# Altium schematic symbol library FPGA_Xilinx.SchLib: 34 symbols (part 1 of 2)
Pins are listed as number, name and electrical type; pins without a type are passive.

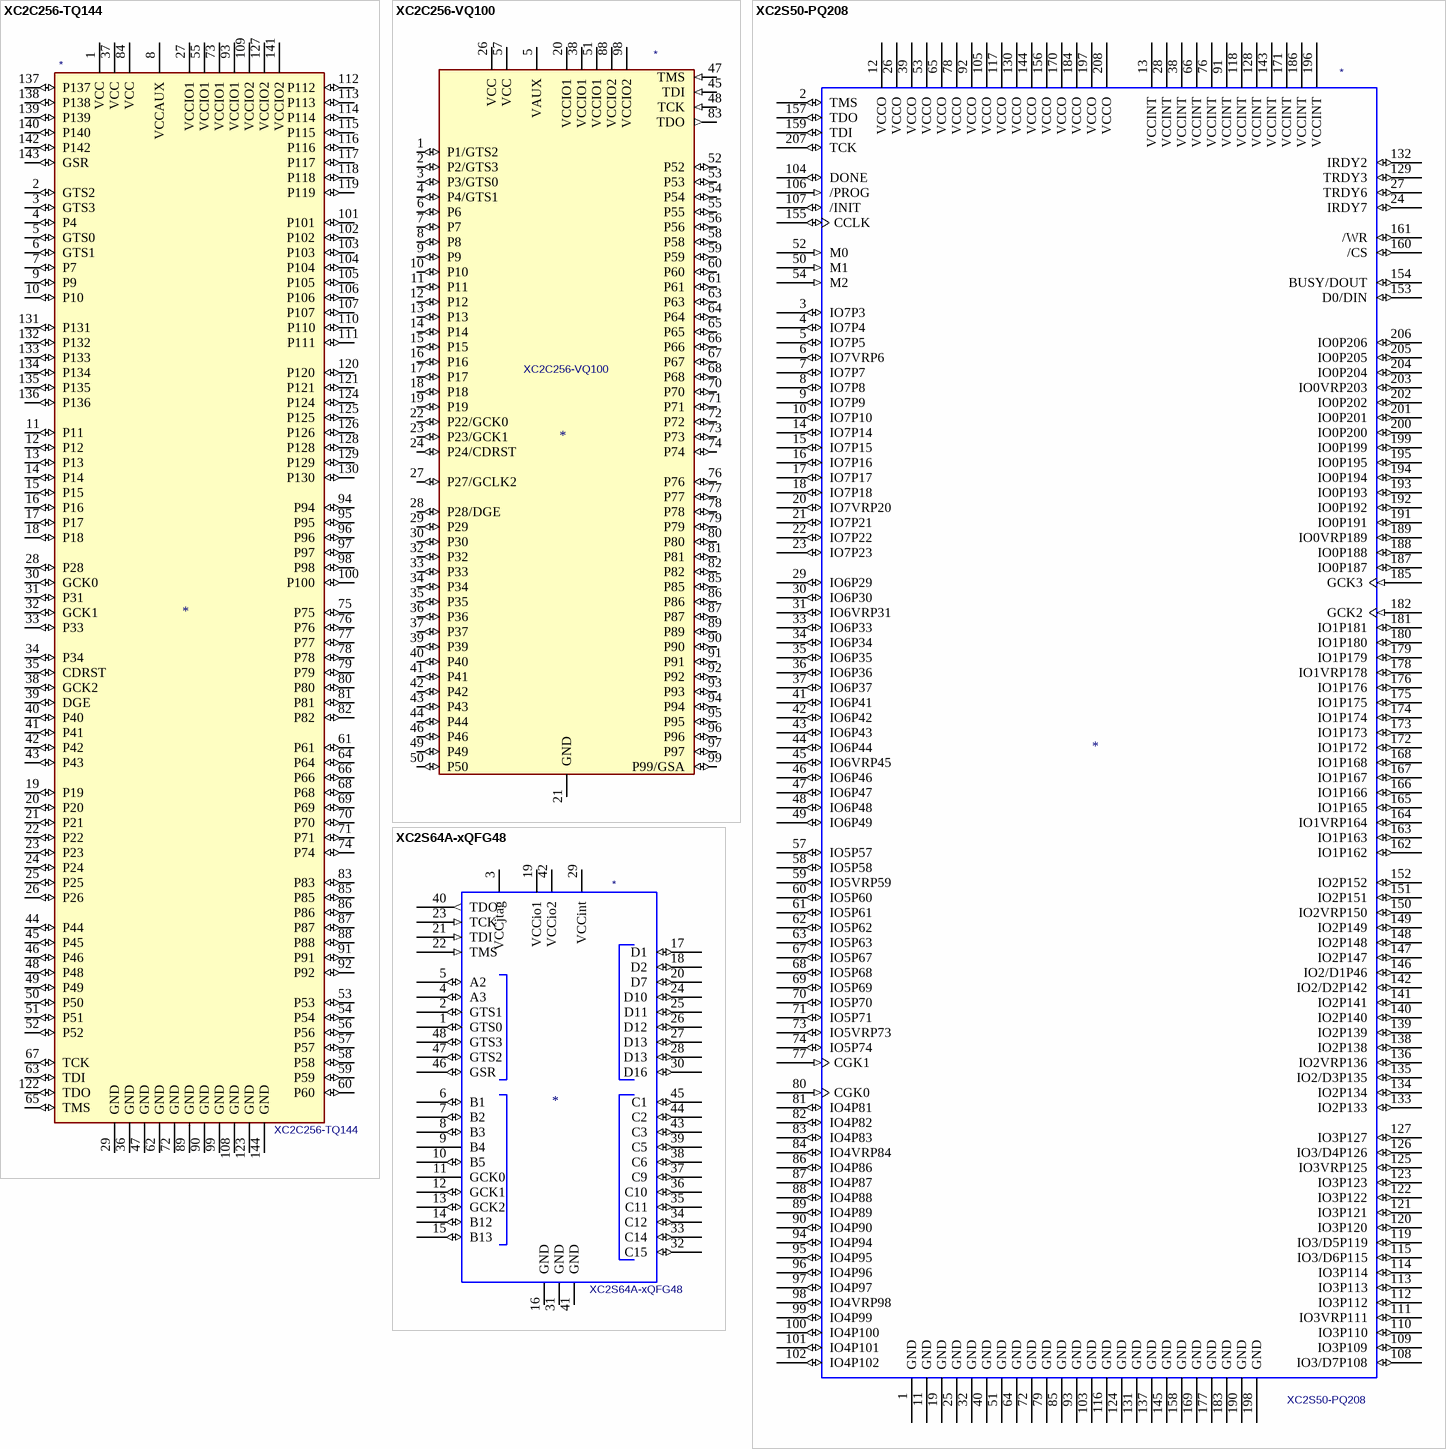
[diagram p0: symbols XC2C256-TQ144 to XC2S64A-xQFG48]

## XC2C256-TQ144
designator *  value XC2C256-TQ144
ki_keywords: CPLD; ki_description: CoolRunner-II CPLD, 256 macrocells; ki_fp_filters: TQFP*20x20mm*P0.5mm*; Footprint: Package_QFP:TQFP-144_20x20mm_P0.5mm; Supplier: https://www.xilinx.com/support/documentation/data_sheets/ds094.pdf
footprint TQFP-144_20x20mm_P0.5mm
pins: 1 VCC (power), 2 GTS2 (io), 3 GTS3 (io), 4 P4 (io), 5 GTS0 (io), 6 GTS1 (io), 7 P7 (io), 8 VCCAUX (power), 9 P9 (io), 10 P10 (io), 11 P11 (io), 12 P12 (io), 13 P13 (io), 14 P14 (io), 15 P15 (io), 16 P16 (io), 17 P17 (io), 18 P18 (io), 19 P19 (io), 20 P20 (io), 21 P21 (io), 22 P22 (io), 23 P23 (io), 24 P24 (io), 25 P25 (io), 26 P26 (io), 27 VCCIO1 (power), 28 P28 (io), 29 GND (power), 30 GCK0 (io), 31 P31 (io), 32 GCK1 (io), 33 P33 (io), 34 P34 (io), 35 CDRST (io), 36 GND (power), 37 VCC (power), 38 GCK2 (io), 39 DGE (io), 40 P40 (io), 41 P41 (io), 42 P42 (io), 43 P43 (io), 44 P44 (io), 45 P45 (io), 46 P46 (io), 47 GND (power), 48 P48 (io), 49 P49 (io), 50 P50 (io), 51 P51 (io), 52 P52 (io), 53 P53 (io), 54 P54 (io), 55 VCCIO1 (power), 56 P56 (io), 57 P57 (io), 58 P58 (io), 59 P59 (io), 60 P60 (io), 61 P61 (io), 62 GND (power), 63 TDI (io), 64 P64 (io), 65 TMS (io), 66 P66 (io), 67 TCK (io), 68 P68 (io), 69 P69 (io), 70 P70 (io), 71 P71 (io), 72 GND (power), 73 VCCIO1 (power), 74 P74 (io), 75 P75 (io), 76 P76 (io), 77 P77 (io), 78 P78 (io), 79 P79 (io), 80 P80 (io), 81 P81 (io), 82 P82 (io), 83 P83 (io), 84 VCC (power), 85 P85 (io), 86 P86 (io), 87 P87 (io), 88 P88 (io), 89 GND (power), 90 GND (power), 91 P91 (io), 92 P92 (io), 93 VCCIO1 (power), 94 P94 (io), 95 P95 (io), 96 P96 (io), 97 P97 (io), 98 P98 (io), 99 GND (power), 100 P100 (io), 101 P101 (io), 102 P102 (io), 103 P103 (io), 104 P104 (io), 105 P105 (io), 106 P106 (io), 107 P107 (io), 108 GND (power), 109 VCCIO2 (power), 110 P110 (io), 111 P111 (io), 112 P112 (io), 113 P113 (io), 114 P114 (io), 115 P115 (io), 116 P116 (io), 117 P117 (io), 118 P118 (io), 119 P119 (io), 120 P120 (io), 121 P121 (io), 122 TDO (io), 123 GND (power), 124 P124 (io), 125 P125 (io), 126 P126 (io), 127 VCCIO2 (power), 128 P128 (io), 129 P129 (io), 130 P130 (io), 131 P131 (io), 132 P132 (io), 133 P133 (io), 134 P134 (io), 135 P135 (io), 136 P136 (io), 137 P137 (io), 138 P138 (io), 139 P139 (io), 140 P140 (io), 141 VCCIO2 (power), 142 P142 (io), 143 GSR (io), 144 GND (power)

## XC2C256-VQ100
designator *  value XC2C256-VQ100
ki_keywords: CPLD; ki_description: CoolRunner-II CPLD, 256 macrocells, VQFP-100; ki_fp_filters: VQFP*14x14mm*P0.5mm*; Footprint: Package_QFP:VQFP-100_14x14mm_P0.5mm; Supplier: https://www.xilinx.com/support/documentation/data_sheets/ds094.pdf
footprint VQFP-100_14x14mm_P0.5mm
pins: 1 P1/GTS2 (io), 2 P2/GTS3 (io), 3 P3/GTS0 (io), 4 P4/GTS1 (io), 5 VAUX (power), 6 P6 (io), 7 P7 (io), 8 P8 (io), 9 P9 (io), 10 P10 (io), 11 P11 (io), 12 P12 (io), 13 P13 (io), 14 P14 (io), 15 P15 (io), 16 P16 (io), 17 P17 (io), 18 P18 (io), 19 P19 (io), 20 VCCIO1 (power), 21 GND (power), 22 P22/GCK0 (io), 23 P23/GCK1 (io), 24 P24/CDRST (io), 25 GND hidden, 26 VCC (power), 27 P27/GCLK2 (io), 28 P28/DGE (io), 29 P29 (io), 30 P30 (io), 31 GND hidden, 32 P32 (io), 33 P33 (io), 34 P34 (io), 35 P35 (io), 36 P36 (io), 37 P37 (io), 38 VCCIO1 (power), 39 P39 (io), 40 P40 (io), 41 P41 (io), 42 P42 (io), 43 P43 (io), 44 P44 (io), 45 TDI (in), 46 P46 (io), 47 TMS (in), 48 TCK (in), 49 P49 (io), 50 P50 (io), 51 VCCIO1 (power), 52 P52 (io), 53 P53 (io), 54 P54 (io), 55 P55 (io), 56 P56 (io), 57 VCC (power), 58 P58 (io), 59 P59 (io), 60 P60 (io), 61 P61 (io), 62 GND hidden, 63 P63 (io), 64 P64 (io), 65 P65 (io), 66 P66 (io), 67 P67 (io), 68 P68 (io), 69 GND hidden, 70 P70 (io), 71 P71 (io), 72 P72 (io), 73 P73 (io), 74 P74 (io), 75 GND hidden, 76 P76 (io), 77 P77 (io), 78 P78 (io), 79 P79 (io), 80 P80 (io), 81 P81 (io), 82 P82 (io), 83 TDO (out), 84 GND hidden, 85 P85 (io), 86 P86 (io), 87 P87 (io), 88 VCCIO2 (power), 89 P89 (io), 90 P90 (io), 91 P91 (io), 92 P92 (io), 93 P93 (io), 94 P94 (io), 95 P95 (io), 96 P96 (io), 97 P97 (io), 98 VCCIO2 (power), 99 P99/GSA (io), 100 GND hidden

## XC2S50-PQ208
designator *  value XC2S50-PQ208
pins: 1 GND, 2 TMS (io), 3 IO7P3 (io), 4 IO7P4 (io), 5 IO7P5 (io), 6 IO7VRP6 (io), 7 IO7P7 (io), 8 IO7P8 (io), 9 IO7P9 (io), 10 IO7P10 (io), 11 GND, 12 VCCO, 13 VCCINT, 14 IO7P14 (io), 15 IO7P15 (io), 16 IO7P16 (io), 17 IO7P17 (io), 18 IO7P18 (io), 19 GND, 20 IO7VRP20 (io), 21 IO7P21 (io), 22 IO7P22 (io), 23 IO7P23 (io), 24 IRDY7 (io), 25 GND, 26 VCCO, 27 TRDY6 (io), 28 VCCINT, 29 IO6P29 (io), 30 IO6P30 (io), 31 IO6VRP31 (io), 32 GND, 33 IO6P33 (io), 34 IO6P34 (io), 35 IO6P35 (io), 36 IO6P36 (io), 37 IO6P37 (io), 38 VCCINT, 39 VCCO, 40 GND, 41 IO6P41 (io), 42 IO6P42 (io), 43 IO6P43 (io), 44 IO6P44 (io), 45 IO6VRP45 (io), 46 IO6P46 (io), 47 IO6P47 (io), 48 IO6P48 (io), 49 IO6P49 (io), 50 M1 (in), 51 GND, 52 M0 (in), 53 VCCO, 54 M2 (in), 57 IO5P57 (io), 58 IO5P58 (io), 59 IO5VRP59 (io), 60 IO5P60 (io), 61 IO5P61 (io), 62 IO5P62 (io), 63 IO5P63 (io), 64 GND, 65 VCCO, 66 VCCINT, 67 IO5P67 (io), 68 IO5P68 (io), 69 IO5P69 (io), 70 IO5P70 (io), 71 IO5P71 (io), 72 GND, 73 IO5VRP73 (io), 74 IO5P74 (io), 76 VCCINT, 77 CGK1 (in), 78 VCCO, 79 GND, 80 CGK0 (in), 81 IO4P81 (io), 82 IO4P82 (io), 83 IO4P83 (io), 84 IO4VRP84 (io), 85 GND, 86 IO4P86 (io), 87 IO4P87 (io), 88 IO4P88 (io), 89 IO4P89 (io), 90 IO4P90 (io), 91 VCCINT, 92 VCCO, 93 GND, 94 IO4P94 (io), 95 IO4P95 (io), 96 IO4P96 (io), 97 IO4P97 (io), 98 IO4VRP98 (io), 99 IO4P99 (io), 100 IO4P100 (io), 101 IO4P101 (io), 102 IO4P102 (io), 103 GND, 104 DONE (io), 105 VCCO, 106 /PROG (in), 107 /INIT (io), 108 IO3/D7P108 (io), 109 IO3P109 (io), 110 IO3P110 (io), 111 IO3VRP111 (io), 112 IO3P112 (io), 113 IO3P113 (io), 114 IO3P114 (io), 115 IO3/D6P115 (io), 116 GND, 117 VCCO, 118 VCCINT, 119 IO3/D5P119 (io), 120 IO3P120 (io), 121 IO3P121 (io), 122 IO3P122 (io), 123 IO3P123 (io), 124 GND, 125 IO3VRP125 (io), 126 IO3/D4P126 (io), 127 IO3P127 (io), 128 VCCINT, 129 TRDY3 (io), 130 VCCO, 131 GND, 132 IRDY2 (io), 133 IO2P133 (io), 134 IO2P134 (io), 135 IO2/D3P135 (io), 136 IO2VRP136 (io), 137 GND, 138 IO2P138 (io), 139 IO2P139 (io), 140 IO2P140 (io), 141 IO2P141 (io), 142 IO2/D2P142 (io), 143 VCCINT, 144 VCCO, 145 GND, 146 IO2/D1P46 (io), 147 IO2P147 (io), 148 IO2P148 (io), 149 IO2P149 (io), 150 IO2VRP150 (io), 151 IO2P151 (io), 152 IO2P152 (io), 153 D0/DIN (io), 154 BUSY/DOUT (io), 155 CCLK (io), 156 VCCO, 157 TDO (io), 158 GND, 159 TDI (io), 160 /CS (io), 161 /WR (io), 162 IO1P162 (io), 163 IO1P163 (io), 164 IO1VRP164 (io), 165 IO1P165 (io), 166 IO1P166 (io), 167 IO1P167 (io), 168 IO1P168 (io), 169 GND, 170 VCCO, 171 VCCINT, 172 IO1P172 (io), 173 IO1P173 (io), 174 IO1P174 (io), 175 IO1P175 (io), 176 IO1P176 (io), 177 GND, 178 IO1VRP178 (io), 179 IO1P179 (io), 180 IO1P180 (io), 181 IO1P181 (io), 182 GCK2 (in), 183 GND, 184 VCCO, 185 GCK3 (in), 186 VCCINT, 187 IO0P187 (io), 188 IO0P188 (io), 189 IO0VRP189 (io), 190 GND, 191 IO0P191 (io), 192 IO0P192 (io), 193 IO0P193 (io), 194 IO0P194 (io), 195 IO0P195 (io), 196 VCCINT, 197 VCCO, 198 GND, 199 IO0P199 (io), 200 IO0P200 (io), 201 IO0P201 (io), 202 IO0P202 (io), 203 IO0VRP203 (io), 204 IO0P204 (io), 205 IO0P205 (io), 206 IO0P206 (io), 207 TCK (io), 208 VCCO

## XC2S64A-xQFG48
designator *  value XC2S64A-xQFG48
ki_description: Xilinx CoolRunner; Supplier: xilinx/xc2c64.pdf
pins: 1 GTS0 (io), 2 GTS1 (io), 3 VCCjtag (power), 4 A3 (io), 5 A2 (io), 6 B1 (io), 7 B2 (io), 8 B3 (io), 9 B4, 10 B5 (io), 11 GCK0, 12 GCK1 (io), 13 GCK2 (io), 14 B12 (io), 15 B13 (io), 16 GND (power), 17 D1 (io), 18 D2 (io), 19 VCCio1 (power), 20 D7 (io), 21 TDI (in), 22 TMS (in), 23 TCK (in), 24 D10 (io), 25 D11 (io), 26 D12 (io), 27 D13 (io), 28 D13 (io), 29 VCCint (power), 30 D16 (io), 31 GND (power), 32 C15 (io), 33 C14 (io), 34 C12 (io), 35 C11 (io), 36 C10 (io), 37 C9 (io), 38 C6 (io), 39 C5 (io), 40 TDO (out), 41 GND (power), 42 VCCio2 (power), 43 C3 (io), 44 C2 (io), 45 C1 (io), 46 GSR (io), 47 GTS2 (io), 48 GTS3 (io)

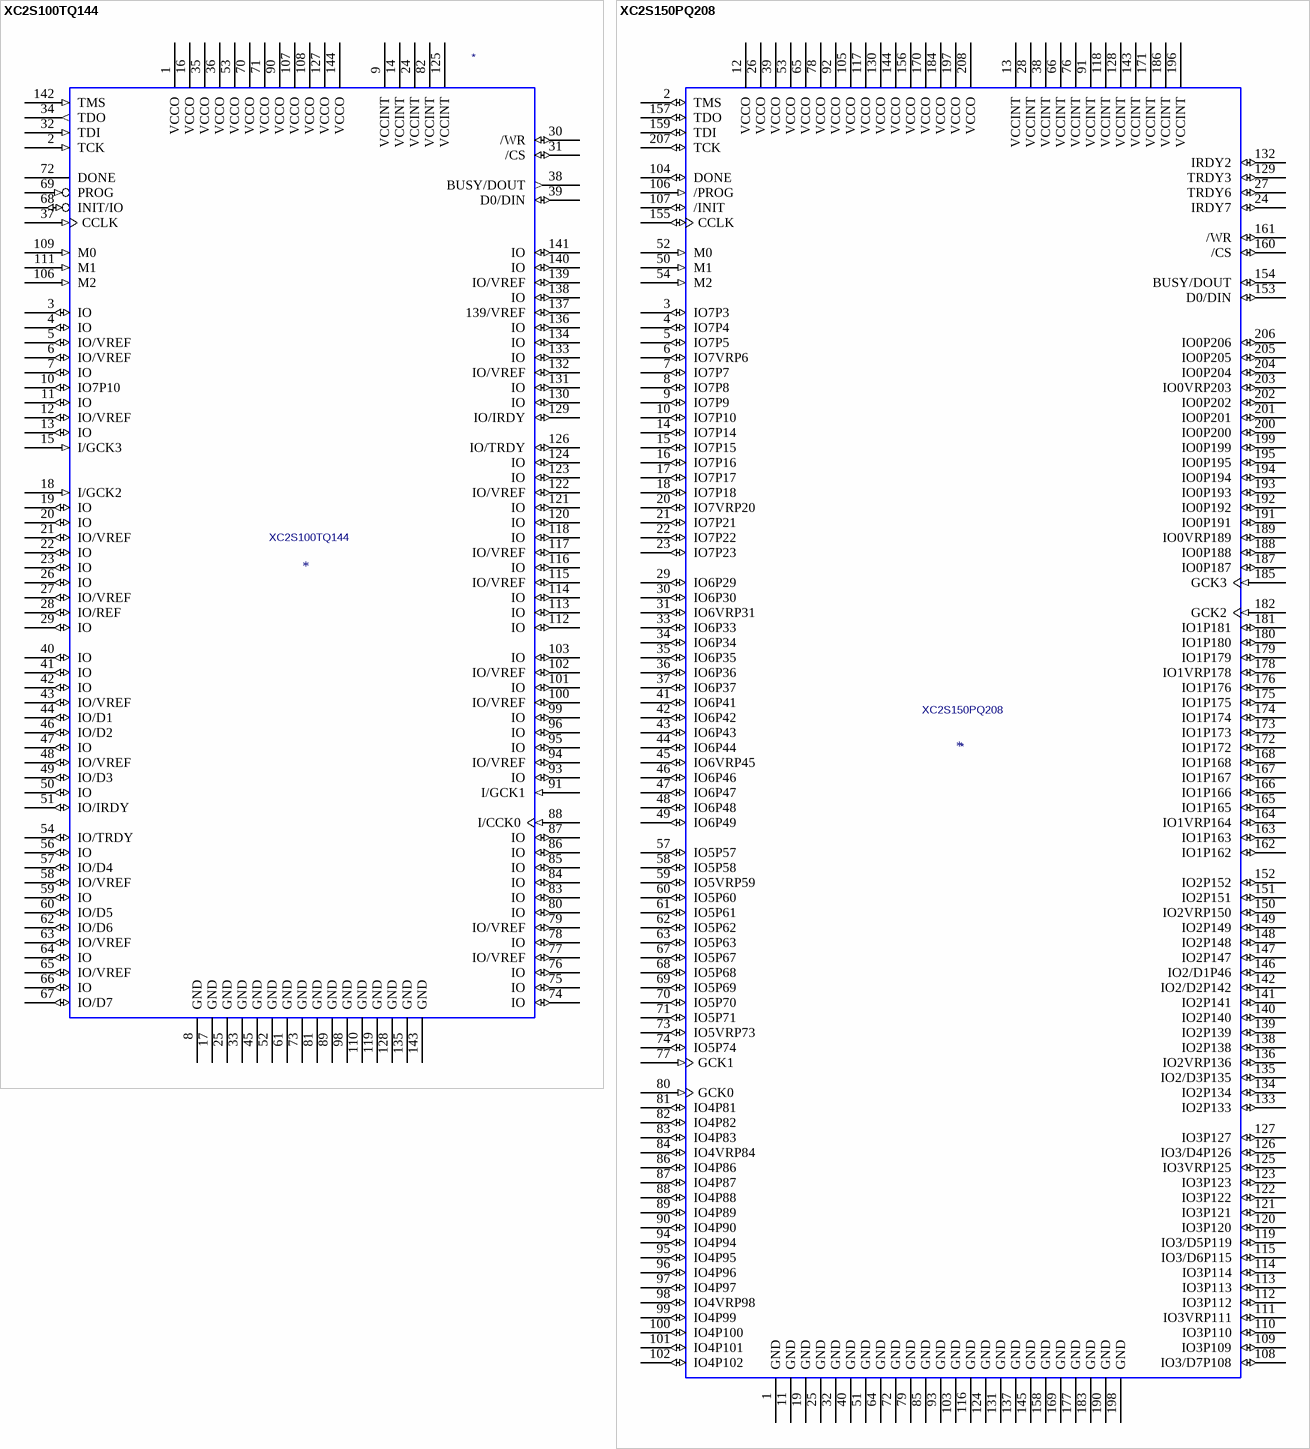
[diagram p1: symbols XC2S100TQ144 to XC2S150PQ208]

## XC2S100TQ144
designator *  value XC2S100TQ144
ki_keywords: FPGA; ki_description: spartan 2; Supplier: xilinx/spartan2e/spartan2e.pdf
pins: 1 VCCO (power), 2 TCK (in), 3 IO (io), 4 IO (io), 5 IO/VREF (io), 6 IO/VREF (io), 7 IO (io), 8 GND (power), 9 VCCINT (power), 10 IO7P10 (io), 11 IO (io), 12 IO/VREF (io), 13 IO (io), 14 VCCINT (power), 15 I/GCK3 (in), 16 VCCO (power), 17 GND (power), 18 I/GCK2 (in), 19 IO (io), 20 IO (io), 21 IO/VREF (io), 22 IO (io), 23 IO (io), 24 VCCINT (power), 25 GND (power), 26 IO (io), 27 IO/VREF (io), 28 IO/REF (io), 29 IO (io), 30 /WR (io), 31 /CS (io), 32 TDI (in), 33 GND (power), 34 TDO (out), 35 VCCO (power), 36 VCCO (power), 37 CCLK (in), 38 BUSY/DOUT (out), 39 D0/DIN (io), 40 IO (io), 41 IO (io), 42 IO (io), 43 IO/VREF (io), 44 IO/D1 (io), 45 GND (power), 46 IO/D2 (io), 47 IO (io), 48 IO/VREF (io), 49 IO/D3 (io), 50 IO (io), 51 IO/IRDY (io), 52 GND (power), 53 VCCO (power), 54 IO/TRDY (io), 56 IO (io), 57 IO/D4 (io), 58 IO/VREF (io), 59 IO (io), 60 IO/D5 (io), 61 GND (power), 62 IO/D6 (io), 63 IO/VREF (io), 64 IO (io), 65 IO/VREF (io), 66 IO (io), 67 IO/D7 (io), 68 INIT/IO (io), 69 PROG (in), 70 VCCO (power), 71 VCCO (power), 72 DONE (oc), 73 GND (power), 74 IO (io), 75 IO (io), 76 IO (io), 77 IO/VREF (io), 78 IO (io), 79 IO/VREF (io), 80 IO (io), 81 GND (power), 82 VCCINT (power), 83 IO (io), 84 IO (io), 85 IO (io), 86 IO (io), 87 IO (io), 88 I/CCK0 (in), 89 GND (power), 90 VCCO (power), 91 I/GCK1 (in), 93 IO (io), 94 IO/VREF (io), 95 IO (io), 96 IO (io), 98 GND, 99 IO (io), 100 IO/VREF (io), 101 IO (io), 102 IO/VREF (io), 103 IO (io), 106 M2 (in), 107 VCCO (power), 108 VCCO (power), 109 M0 (in), 110 GND (power), 111 M1 (in), 112 IO (io), 113 IO (io), 114 IO (io), 115 IO/VREF (io), 116 IO (io), 117 IO/VREF (io), 118 IO (io), 119 GND (power), 120 IO (io), 121 IO (io), 122 IO/VREF (io), 123 IO (io), 124 IO (io), 125 VCCINT (power), 126 IO/TRDY (io), 127 VCCO (power), 128 GND (power), 129 IO/IRDY (io), 130 IO (io), 131 IO (io), 132 IO/VREF (io), 133 IO (io), 134 IO (io), 135 GND (power), 136 IO (io), 137 139/VREF (io), 138 IO (io), 139 IO/VREF (io), 140 IO (io), 141 IO (io), 142 TMS (in), 143 GND (power), 144 VCCO

## XC2S150PQ208
designator *  value XC2S150PQ208
ki_keywords: FPGA; Supplier: xilinx/spartan2e/spartan2e.pdf
pins: 1 GND (power), 2 TMS (io), 3 IO7P3 (io), 4 IO7P4 (io), 5 IO7P5 (io), 6 IO7VRP6 (io), 7 IO7P7 (io), 8 IO7P8 (io), 9 IO7P9 (io), 10 IO7P10 (io), 11 GND (power), 12 VCCO (power), 13 VCCINT (power), 14 IO7P14 (io), 15 IO7P15 (io), 16 IO7P16 (io), 17 IO7P17 (io), 18 IO7P18 (io), 19 GND (power), 20 IO7VRP20 (io), 21 IO7P21 (io), 22 IO7P22 (io), 23 IO7P23 (io), 24 IRDY7 (io), 25 GND (power), 26 VCCO (power), 27 TRDY6 (io), 28 VCCINT (power), 29 IO6P29 (io), 30 IO6P30 (io), 31 IO6VRP31 (io), 32 GND (power), 33 IO6P33 (io), 34 IO6P34 (io), 35 IO6P35 (io), 36 IO6P36 (io), 37 IO6P37 (io), 38 VCCINT (power), 39 VCCO (power), 40 GND (power), 41 IO6P41 (io), 42 IO6P42 (io), 43 IO6P43 (io), 44 IO6P44 (io), 45 IO6VRP45 (io), 46 IO6P46 (io), 47 IO6P47 (io), 48 IO6P48 (io), 49 IO6P49 (io), 50 M1 (in), 51 GND (power), 52 M0 (in), 53 VCCO (power), 54 M2 (in), 57 IO5P57 (io), 58 IO5P58 (io), 59 IO5VRP59 (io), 60 IO5P60 (io), 61 IO5P61 (io), 62 IO5P62 (io), 63 IO5P63 (io), 64 GND (power), 65 VCCO (power), 66 VCCINT (power), 67 IO5P67 (io), 68 IO5P68 (io), 69 IO5P69 (io), 70 IO5P70 (io), 71 IO5P71 (io), 72 GND (power), 73 IO5VRP73 (io), 74 IO5P74 (io), 76 VCCINT (power), 77 GCK1 (in), 78 VCCO (power), 79 GND (power), 80 GCK0 (in), 81 IO4P81 (io), 82 IO4P82 (io), 83 IO4P83 (io), 84 IO4VRP84 (io), 85 GND (power), 86 IO4P86 (io), 87 IO4P87 (io), 88 IO4P88 (io), 89 IO4P89 (io), 90 IO4P90 (io), 91 VCCINT (power), 92 VCCO (power), 93 GND (power), 94 IO4P94 (io), 95 IO4P95 (io), 96 IO4P96 (io), 97 IO4P97 (io), 98 IO4VRP98 (io), 99 IO4P99 (io), 100 IO4P100 (io), 101 IO4P101 (io), 102 IO4P102 (io), 103 GND (power), 104 DONE (io), 105 VCCO (power), 106 /PROG (in), 107 /INIT (io), 108 IO3/D7P108 (io), 109 IO3P109 (io), 110 IO3P110 (io), 111 IO3VRP111 (io), 112 IO3P112 (io), 113 IO3P113 (io), 114 IO3P114 (io), 115 IO3/D6P115 (io), 116 GND (power), 117 VCCO (power), 118 VCCINT (power), 119 IO3/D5P119 (io), 120 IO3P120 (io), 121 IO3P121 (io), 122 IO3P122 (io), 123 IO3P123 (io), 124 GND (power), 125 IO3VRP125 (io), 126 IO3/D4P126 (io), 127 IO3P127 (io), 128 VCCINT (power), 129 TRDY3 (io), 130 VCCO (power), 131 GND (power), 132 IRDY2 (io), 133 IO2P133 (io), 134 IO2P134 (io), 135 IO2/D3P135 (io), 136 IO2VRP136 (io), 137 GND (power), 138 IO2P138 (io), 139 IO2P139 (io), 140 IO2P140 (io), 141 IO2P141 (io), 142 IO2/D2P142 (io), 143 VCCINT (power), 144 VCCO (power), 145 GND (power), 146 IO2/D1P46 (io), 147 IO2P147 (io), 148 IO2P148 (io), 149 IO2P149 (io), 150 IO2VRP150 (io), 151 IO2P151 (io), 152 IO2P152 (io), 153 D0/DIN (io), 154 BUSY/DOUT (io), 155 CCLK (io), 156 VCCO (power), 157 TDO (io), 158 GND (power), 159 TDI (io), 160 /CS (io), 161 /WR (io), 162 IO1P162 (io), 163 IO1P163 (io), 164 IO1VRP164 (io), 165 IO1P165 (io), 166 IO1P166 (io), 167 IO1P167 (io), 168 IO1P168 (io), 169 GND (power), 170 VCCO (power), 171 VCCINT (power), 172 IO1P172 (io), 173 IO1P173 (io), 174 IO1P174 (io), 175 IO1P175 (io), 176 IO1P176 (io), 177 GND (power), 178 IO1VRP178 (io), 179 IO1P179 (io), 180 IO1P180 (io), 181 IO1P181 (io), 182 GCK2 (in), 183 GND (power), 184 VCCO (power), 185 GCK3 (in), 186 VCCINT (power), 187 IO0P187 (io), 188 IO0P188 (io), 189 IO0VRP189 (io), 190 GND (power), 191 IO0P191 (io), 192 IO0P192 (io), 193 IO0P193 (io), 194 IO0P194 (io), 195 IO0P195 (io), 196 VCCINT (power), 197 VCCO (power), 198 GND (power), 199 IO0P199 (io), 200 IO0P200 (io), 201 IO0P201 (io), 202 IO0P202 (io), 203 IO0VRP203 (io), 204 IO0P204 (io), 205 IO0P205 (io), 206 IO0P206 (io), 207 TCK (io), 208 VCCO (power)

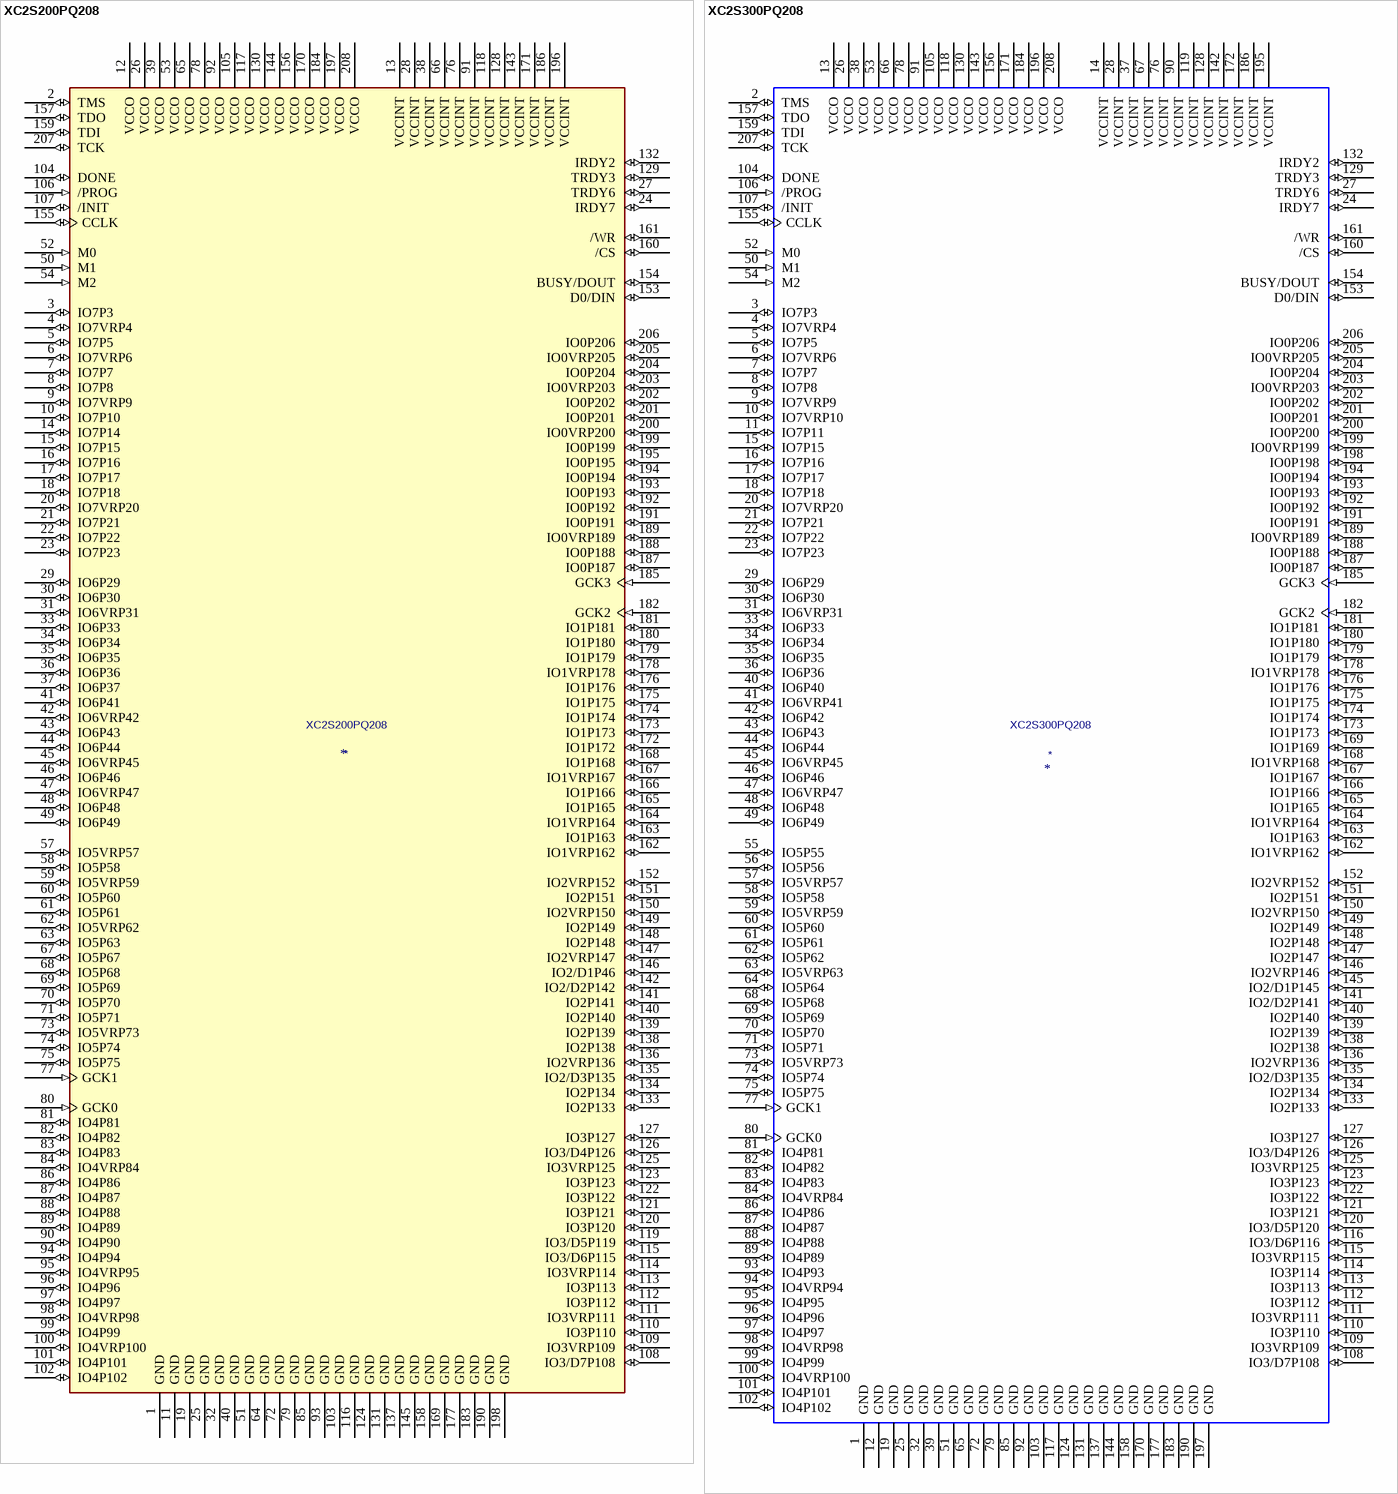
[diagram p2: symbols XC2S200PQ208 to XC2S300PQ208]

## XC2S200PQ208
designator *  value XC2S200PQ208
ki_keywords: FPGA; Supplier: xilinx/spartan2e/spartan2e.pdf
pins: 1 GND, 2 TMS (io), 3 IO7P3 (io), 4 IO7VRP4 (io), 5 IO7P5 (io), 6 IO7VRP6 (io), 7 IO7P7 (io), 8 IO7P8 (io), 9 IO7VRP9 (io), 10 IO7P10 (io), 11 GND, 12 VCCO, 13 VCCINT, 14 IO7P14 (io), 15 IO7P15 (io), 16 IO7P16 (io), 17 IO7P17 (io), 18 IO7P18 (io), 19 GND, 20 IO7VRP20 (io), 21 IO7P21 (io), 22 IO7P22 (io), 23 IO7P23 (io), 24 IRDY7 (io), 25 GND, 26 VCCO, 27 TRDY6 (io), 28 VCCINT, 29 IO6P29 (io), 30 IO6P30 (io), 31 IO6VRP31 (io), 32 GND, 33 IO6P33 (io), 34 IO6P34 (io), 35 IO6P35 (io), 36 IO6P36 (io), 37 IO6P37 (io), 38 VCCINT, 39 VCCO, 40 GND, 41 IO6P41 (io), 42 IO6VRP42 (io), 43 IO6P43 (io), 44 IO6P44 (io), 45 IO6VRP45 (io), 46 IO6P46 (io), 47 IO6VRP47 (io), 48 IO6P48 (io), 49 IO6P49 (io), 50 M1 (in), 51 GND, 52 M0 (in), 53 VCCO, 54 M2 (in), 57 IO5VRP57 (io), 58 IO5P58 (io), 59 IO5VRP59 (io), 60 IO5P60 (io), 61 IO5P61 (io), 62 IO5VRP62 (io), 63 IO5P63 (io), 64 GND, 65 VCCO, 66 VCCINT, 67 IO5P67 (io), 68 IO5P68 (io), 69 IO5P69 (io), 70 IO5P70 (io), 71 IO5P71 (io), 72 GND, 73 IO5VRP73 (io), 74 IO5P74 (io), 75 IO5P75 (io), 76 VCCINT, 77 GCK1 (in), 78 VCCO, 79 GND, 80 GCK0 (in), 81 IO4P81 (io), 82 IO4P82 (io), 83 IO4P83 (io), 84 IO4VRP84 (io), 85 GND, 86 IO4P86 (io), 87 IO4P87 (io), 88 IO4P88 (io), 89 IO4P89 (io), 90 IO4P90 (io), 91 VCCINT, 92 VCCO, 93 GND, 94 IO4P94 (io), 95 IO4VRP95 (io), 96 IO4P96 (io), 97 IO4P97 (io), 98 IO4VRP98 (io), 99 IO4P99 (io), 100 IO4VRP100 (io), 101 IO4P101 (io), 102 IO4P102 (io), 103 GND, 104 DONE (io), 105 VCCO, 106 /PROG (in), 107 /INIT (io), 108 IO3/D7P108 (io), 109 IO3VRP109 (io), 110 IO3P110 (io), 111 IO3VRP111 (io), 112 IO3P112 (io), 113 IO3P113 (io), 114 IO3VRP114 (io), 115 IO3/D6P115 (io), 116 GND, 117 VCCO, 118 VCCINT, 119 IO3/D5P119 (io), 120 IO3P120 (io), 121 IO3P121 (io), 122 IO3P122 (io), 123 IO3P123 (io), 124 GND, 125 IO3VRP125 (io), 126 IO3/D4P126 (io), 127 IO3P127 (io), 128 VCCINT, 129 TRDY3 (io), 130 VCCO, 131 GND, 132 IRDY2 (io), 133 IO2P133 (io), 134 IO2P134 (io), 135 IO2/D3P135 (io), 136 IO2VRP136 (io), 137 GND, 138 IO2P138 (io), 139 IO2P139 (io), 140 IO2P140 (io), 141 IO2P141 (io), 142 IO2/D2P142 (io), 143 VCCINT, 144 VCCO, 145 GND, 146 IO2/D1P46 (io), 147 IO2VRP147 (io), 148 IO2P148 (io), 149 IO2P149 (io), 150 IO2VRP150 (io), 151 IO2P151 (io), 152 IO2VRP152 (io), 153 D0/DIN (io), 154 BUSY/DOUT (io), 155 CCLK (io), 156 VCCO, 157 TDO (io), 158 GND, 159 TDI (io), 160 /CS (io), 161 /WR (io), 162 IO1VRP162 (io), 163 IO1P163 (io), 164 IO1VRP164 (io), 165 IO1P165 (io), 166 IO1P166 (io), 167 IO1VRP167 (io), 168 IO1P168 (io), 169 GND, 170 VCCO, 171 VCCINT, 172 IO1P172 (io), 173 IO1P173 (io), 174 IO1P174 (io), 175 IO1P175 (io), 176 IO1P176 (io), 177 GND, 178 IO1VRP178 (io), 179 IO1P179 (io), 180 IO1P180 (io), 181 IO1P181 (io), 182 GCK2 (in), 183 GND, 184 VCCO, 185 GCK3 (in), 186 VCCINT, 187 IO0P187 (io), 188 IO0P188 (io), 189 IO0VRP189 (io), 190 GND, 191 IO0P191 (io), 192 IO0P192 (io), 193 IO0P193 (io), 194 IO0P194 (io), 195 IO0P195 (io), 196 VCCINT, 197 VCCO, 198 GND, 199 IO0P199 (io), 200 IO0VRP200 (io), 201 IO0P201 (io), 202 IO0P202 (io), 203 IO0VRP203 (io), 204 IO0P204 (io), 205 IO0VRP205 (io), 206 IO0P206 (io), 207 TCK (io), 208 VCCO

## XC2S300PQ208
designator *  value XC2S300PQ208
Supplier: xilinx/spartan2e/spartan2e.pdf
pins: 1 GND (power), 2 TMS (io), 3 IO7P3 (io), 4 IO7VRP4 (io), 5 IO7P5 (io), 6 IO7VRP6 (io), 7 IO7P7 (io), 8 IO7P8 (io), 9 IO7VRP9 (io), 10 IO7VRP10 (io), 11 IO7P11 (io), 12 GND (power), 13 VCCO (power), 14 VCCINT (power), 15 IO7P15 (io), 16 IO7P16 (io), 17 IO7P17 (io), 18 IO7P18 (io), 19 GND (power), 20 IO7VRP20 (io), 21 IO7P21 (io), 22 IO7P22 (io), 23 IO7P23 (io), 24 IRDY7 (io), 25 GND (power), 26 VCCO (power), 27 TRDY6 (io), 28 VCCINT (power), 29 IO6P29 (io), 30 IO6P30 (io), 31 IO6VRP31 (io), 32 GND (power), 33 IO6P33 (io), 34 IO6P34 (io), 35 IO6P35 (io), 36 IO6P36 (io), 37 VCCINT (power), 38 VCCO (power), 39 GND (power), 40 IO6P40 (io), 41 IO6VRP41 (io), 42 IO6P42 (io), 43 IO6P43 (io), 44 IO6P44 (io), 45 IO6VRP45 (io), 46 IO6P46 (io), 47 IO6VRP47 (io), 48 IO6P48 (io), 49 IO6P49 (io), 50 M1 (in), 51 GND (power), 52 M0 (in), 53 VCCO (power), 54 M2 (in), 55 IO5P55 (io), 56 IO5P56 (io), 57 IO5VRP57 (io), 58 IO5P58 (io), 59 IO5VRP59 (io), 60 IO5P60 (io), 61 IO5P61 (io), 62 IO5P62 (io), 63 IO5VRP63 (io), 64 IO5P64 (io), 65 GND (power), 66 VCCO (power), 67 VCCINT (power), 68 IO5P68 (io), 69 IO5P69 (io), 70 IO5P70 (io), 71 IO5P71 (io), 72 GND (power), 73 IO5VRP73 (io), 74 IO5P74 (io), 75 IO5P75 (io), 76 VCCINT (power), 77 GCK1 (in), 78 VCCO (power), 79 GND (power), 80 GCK0 (in), 81 IO4P81 (io), 82 IO4P82 (io), 83 IO4P83 (io), 84 IO4VRP84 (io), 85 GND (power), 86 IO4P86 (io), 87 IO4P87 (io), 88 IO4P88 (io), 89 IO4P89 (io), 90 VCCINT (power), 91 VCCO (power), 92 GND (power), 93 IO4P93 (io), 94 IO4VRP94 (io), 95 IO4P95 (io), 96 IO4P96 (io), 97 IO4P97 (io), 98 IO4VRP98 (io), 99 IO4P99 (io), 100 IO4VRP100 (io), 101 IO4P101 (io), 102 IO4P102 (io), 103 GND (power), 104 DONE (io), 105 VCCO (power), 106 /PROG (in), 107 /INIT (io), 108 IO3/D7P108 (io), 109 IO3VRP109 (io), 110 IO3P110 (io), 111 IO3VRP111 (io), 112 IO3P112 (io), 113 IO3P113 (io), 114 IO3P114 (io), 115 IO3VRP115 (io), 116 IO3/D6P116 (io), 117 GND (power), 118 VCCO (power), 119 VCCINT (power), 120 IO3/D5P120 (io), 121 IO3P121 (io), 122 IO3P122 (io), 123 IO3P123 (io), 124 GND (power), 125 IO3VRP125 (io), 126 IO3/D4P126 (io), 127 IO3P127 (io), 128 VCCINT (power), 129 TRDY3 (io), 130 VCCO (power), 131 GND (power), 132 IRDY2 (io), 133 IO2P133 (io), 134 IO2P134 (io), 135 IO2/D3P135 (io), 136 IO2VRP136 (io), 137 GND (power), 138 IO2P138 (io), 139 IO2P139 (io), 140 IO2P140 (io), 141 IO2/D2P141 (io), 142 VCCINT (power), 143 VCCO (power), 144 GND (power), 145 IO2/D1P145 (io), 146 IO2VRP146 (io), 147 IO2P147 (io), 148 IO2P148 (io), 149 IO2P149 (io), 150 IO2VRP150 (io), 151 IO2P151 (io), 152 IO2VRP152 (io), 153 D0/DIN (io), 154 BUSY/DOUT (io), 155 CCLK (io), 156 VCCO (power), 157 TDO (io), 158 GND (power), 159 TDI (io), 160 /CS (io), 161 /WR (io), 162 IO1VRP162 (io), 163 IO1P163 (io), 164 IO1VRP164 (io), 165 IO1P165 (io), 166 IO1P166 (io), 167 IO1P167 (io), 168 IO1VRP168 (io), 169 IO1P169 (io), 170 GND (power), 171 VCCO, 172 VCCINT (power), 173 IO1P173 (io), 174 IO1P174 (io), 175 IO1P175 (io), 176 IO1P176 (io), 177 GND (power), 178 IO1VRP178 (io), 179 IO1P179 (io), 180 IO1P180 (io), 181 IO1P181 (io), 182 GCK2 (in), 183 GND (power), 184 VCCO (power), 185 GCK3 (in), 186 VCCINT (power), 187 IO0P187 (io), 188 IO0P188 (io), 189 IO0VRP189 (io), 190 GND (power), 191 IO0P191 (io), 192 IO0P192 (io), 193 IO0P193 (io), 194 IO0P194 (io), 195 VCCINT (power), 196 VCCO (power), 197 GND (power), 198 IO0P198 (io), 199 IO0VRP199 (io), 200 IO0P200 (io), 201 IO0P201 (io), 202 IO0P202 (io), 203 IO0VRP203 (io), 204 IO0P204 (io), 205 IO0VRP205 (io), 206 IO0P206 (io), 207 TCK (io), 208 VCCO (power)

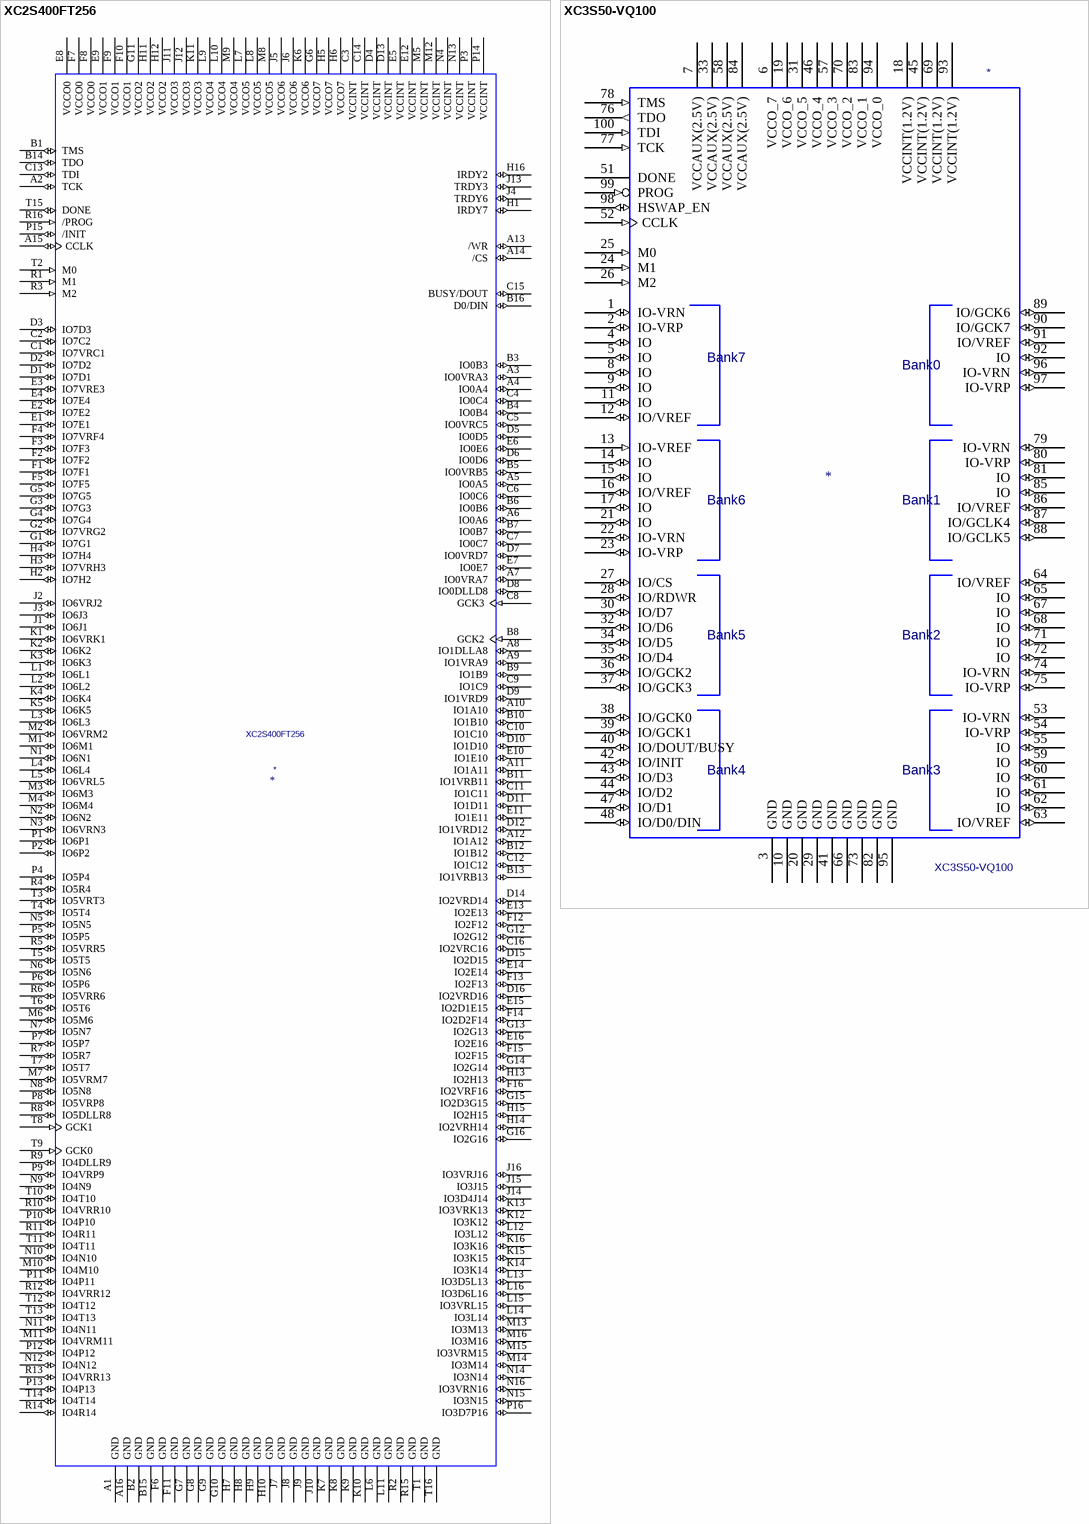
[diagram p3: symbols XC2S400FT256 to XC3S50-VQ100]

## XC2S400FT256
designator *  value XC2S400FT256
pins: A1 GND (power), A2 TCK (io), A3 IO0VRA3 (io), A4 IO0A4 (io), A5 IO0A5 (io), A6 IO0A6 (io), A7 IO0VRA7 (io), A8 IO1DLLA8 (io), A9 IO1VRA9 (io), A10 IO1A10 (io), A11 IO1A11 (io), A12 IO1A12 (io), A13 /WR (io), A14 /CS (io), A15 CCLK (io), A16 GND (power), B1 TMS (io), B2 GND (power), B3 IO0B3 (io), B4 IO0B4 (io), B5 IO0VRB5 (io), B6 IO0B6 (io), B7 IO0B7 (io), B8 GCK2 (in), B9 IO1B9 (io), B10 IO1B10 (io), B11 IO1VRB11 (io), B12 IO1B12 (io), B13 IO1VRB13 (io), B14 TDO (io), B15 GND (power), B16 D0/DIN (io), C1 IO7VRC1 (io), C2 IO7C2 (io), C3 VCCINT (power), C4 IO0C4 (io), C5 IO0VRC5 (io), C6 IO0C6 (io), C7 IO0C7 (io), C8 GCK3 (in), C9 IO1C9 (io), C10 IO1C10 (io), C11 IO1C11 (io), C12 IO1C12 (io), C13 TDI (io), C14 VCCINT (power), C15 BUSY/DOUT (io), C16 IO2VRC16 (io), D1 IO7D1 (io), D2 IO7D2 (io), D3 IO7D3 (io), D4 VCCINT (power), D5 IO0D5 (io), D6 IO0D6 (io), D7 IO0VRD7 (io), D8 IO0DLLD8 (io), D9 IO1VRD9 (io), D10 IO1D10 (io), D11 IO1D11 (io), D12 IO1VRD12 (io), D13 VCCINT (power), D14 IO2VRD14 (io), D15 IO2D15 (io), D16 IO2VRD16 (io), E1 IO7E1 (io), E2 IO7E2 (io), E3 IO7VRE3 (io), E4 IO7E4 (io), E5 VCCINT (power), E6 IO0E6 (io), E7 IO0E7 (io), E8 VCCO0 (power), E9 VCCO1 (power), E10 IO1E10 (io), E11 IO1E11 (io), E12 VCCINT (power), E13 IO2E13 (io), E14 IO2E14 (io), E15 IO2D1E15 (io), E16 IO2E16 (io), F1 IO7F1 (io), F2 IO7F2 (io), F3 IO7F3 (io), F4 IO7VRF4 (io), F5 IO7F5 (io), F6 GND (power), F7 VCCO0 (power), F8 VCCO0 (power), F9 VCCO1 (power), F10 VCCO1 (power), F11 GND (power), F12 IO2F12 (io), F13 IO2F13 (io), F14 IO2D2F14 (io), F15 IO2F15 (io), F16 IO2VRF16 (io), G1 IO7G1 (io), G2 IO7VRG2 (io), G3 IO7G3 (io), G4 IO7G4 (io), G5 IO7G5 (io), G6 VCCO7 (power), G7 GND (power), G8 GND (power), G9 GND (power), G10 GND (power), G11 VCCO2 (power), G12 IO2G12 (io), G13 IO2G13 (io), G14 IO2G14 (io), G15 IO2D3G15 (io), G16 IO2G16 (io), H1 IRDY7 (io), H2 IO7H2 (io), H3 IO7VRH3 (io), H4 IO7H4 (io), H5 VCCO7 (power), H6 VCCO7 (power), H7 GND (power), H8 GND (power), H9 GND (power), H10 GND (power), H11 VCCO2 (power), H12 VCCO2 (power), H13 IO2H13 (io), H14 IO2VRH14 (io), H15 IO2H15 (io), H16 IRDY2 (io), J1 IO6J1 (io), J2 IO6VRJ2 (io), J3 IO6J3 (io), J4 TRDY6 (io), J5 VCCO6 (power), J6 VCCO6 (power), J7 GND (power), J8 GND (power), J9 GND (power), J10 GND (power), J11 VCCO3 (power), J12 VCCO3 (power), J13 TRDY3 (io), J14 IO3D4J14 (io), J15 IO3J15 (io), J16 IO3VRJ16 (io), K1 IO6VRK1 (io), K2 IO6K2 (io), K3 IO6K3 (io), K4 IO6K4 (io), K5 IO6K5 (io), K6 VCCO6 (power), K7 GND (power), K8 GND (power), K9 GND (power), K10 GND (power), K11 VCCO3 (power), K12 IO3K12 (io), K13 IO3VRK13 (io), K14 IO3K14 (io), K15 IO3K15 (io), K16 IO3K16 (io), L1 IO6L1 (io), L2 IO6L2 (io), L3 IO6L3 (io), L4 IO6L4 (io), L5 IO6VRL5 (io), L6 GND (power), L7 VCCO5 (power), L8 VCCO5 (power), L9 VCCO4, L10 VCCO4 (power), L11 GND (power), L12 IO3L12 (io), L13 IO3D5L13 (io), L14 IO3L14 (io), L15 IO3VRL15 (io), L16 IO3D6L16 (io), M1 IO6M1 (io), M2 IO6VRM2 (io), M3 IO6M3 (io), M4 IO6M4 (io), M5 VCCINT (power), M6 IO5M6 (io), M7 IO5VRM7 (io), M8 VCCO5 (power), M9 VCCO4 (power), M10 IO4M10 (io), M11 IO4VRM11 (io), M12 VCCINT (power), M13 IO3M13 (io), M14 IO3M14 (io), M15 IO3VRM15 (io), M16 IO3M16 (io), N1 IO6N1 (io), N2 IO6N2 (io), N3 IO6VRN3 (io), N4 VCCINT (power), N5 IO5N5 (io), N6 IO5N6 (io), N7 IO5N7 (io), N8 IO5N8 (io), N9 IO4N9 (io), N10 IO4N10 (io), N11 IO4N11 (io), N12 IO4N12 (io), N13 VCCINT (power), N14 IO3N14 (io), N15 IO3N15 (io), N16 IO3VRN16 (io), P1 IO6P1 (io), P2 IO6P2 (io), P3 VCCINT (power), P4 IO5P4 (io), P5 IO5P5 (io), P6 IO5P6 (io), P7 IO5P7 (io), P8 IO5VRP8 (io), P9 IO4VRP9 (io), P10 IO4P10 (io), P11 IO4P11 (io), P12 IO4P12 (io), P13 IO4P13 (io), P14 VCCINT (power), P15 /INIT (io), P16 IO3D7P16 (io), R1 M1 (in), R2 GND (power), R3 M2 (in), R4 IO5R4 (io), R5 IO5VRR5 (io), R6 IO5VRR6 (io), R7 IO5R7 (io), R8 IO5DLLR8 (io), R9 IO4DLLR9 (io), R10 IO4VRR10 (io), R11 IO4R11 (io), R12 IO4VRR12 (io), R13 IO4VRR13 (io), R14 IO4R14 (io), R15 GND (power), R16 /PROG (in), T1 GND (power), T2 M0 (in), T3 IO5VRT3 (io), T4 IO5T4 (io), T5 IO5T5 (io), T6 IO5T6 (io), T7 IO5T7 (io), T8 GCK1 (in), T9 GCK0 (in), T10 IO4T10 (io), T11 IO4T11 (io), T12 IO4T12 (io), T13 IO4T13 (io), T14 IO4T14 (io), T15 DONE (io), T16 GND (power)

## XC3S50-VQ100
designator *  value XC3S50-VQ100
ki_keywords: FPGA; ki_description: spartan 2; Supplier: xilinx/spartan2e/spartan2e.pdf
pins: 1 IO-VRN (io), 2 IO-VRP (io), 3 GND (power), 4 IO (io), 5 IO (io), 6 VCCO_7 (power), 7 VCCAUX(2.5V) (power), 8 IO (io), 9 IO (io), 10 GND (power), 11 IO (io), 12 IO/VREF (io), 13 IO-VREF (in), 14 IO (io), 15 IO (io), 16 IO/VREF (io), 17 IO (io), 18 VCCINT(1.2V) (power), 19 VCCO_6 (power), 20 GND (power), 21 IO (io), 22 IO-VRN (io), 23 IO-VRP (io), 24 M1 (in), 25 M0 (in), 26 M2 (in), 27 IO/CS (io), 28 IO/RDWR (io), 29 GND (power), 30 IO/D7 (io), 31 VCCO_5 (power), 32 IO/D6 (io), 33 VCCAUX(2.5V) (power), 34 IO/D5 (io), 35 IO/D4 (io), 36 IO/GCK2 (io), 37 IO/GCK3 (io), 38 IO/GCK0 (io), 39 IO/GCK1 (io), 40 IO/DOUT/BUSY (io), 41 GND (power), 42 IO/INIT (io), 43 IO/D3 (io), 44 IO/D2 (io), 45 VCCINT(1.2V) (power), 46 VCCO_4 (power), 47 IO/D1 (io), 48 IO/D0/DIN (io), 51 DONE (oc), 52 CCLK (in), 53 IO-VRN (io), 54 IO-VRP (io), 55 IO (io), 57 VCCO_3 (power), 58 VCCAUX(2.5V) (power), 59 IO (io), 60 IO (io), 61 IO (io), 62 IO (io), 63 IO/VREF (io), 64 IO/VREF (io), 65 IO (io), 66 GND (power), 67 IO (io), 68 IO (io), 69 VCCINT(1.2V) (power), 70 VCCO_2 (power), 71 IO (io), 72 IO (io), 73 GND (power), 74 IO-VRN (io), 75 IO-VRP (io), 76 TDO (out), 77 TCK (in), 78 TMS (in), 79 IO-VRN (io), 80 IO-VRP (io), 81 IO (io), 82 GND (power), 83 VCCO_1, 84 VCCAUX(2.5V) (power), 85 IO (io), 86 IO/VREF (io), 87 IO/GCLK4 (io), 88 IO/GCLK5 (io), 89 IO/GCK6 (io), 90 IO/GCK7 (io), 91 IO/VREF (io), 92 IO (io), 93 VCCINT(1.2V) (power), 94 VCCO_0, 95 GND (power), 96 IO-VRN (io), 97 IO-VRP (io), 98 HSWAP_EN (io), 99 PROG (in), 100 TDI (in)
text: Bank7; Bank0; Bank6; Bank1; Bank5; Bank2; Bank4; Bank3

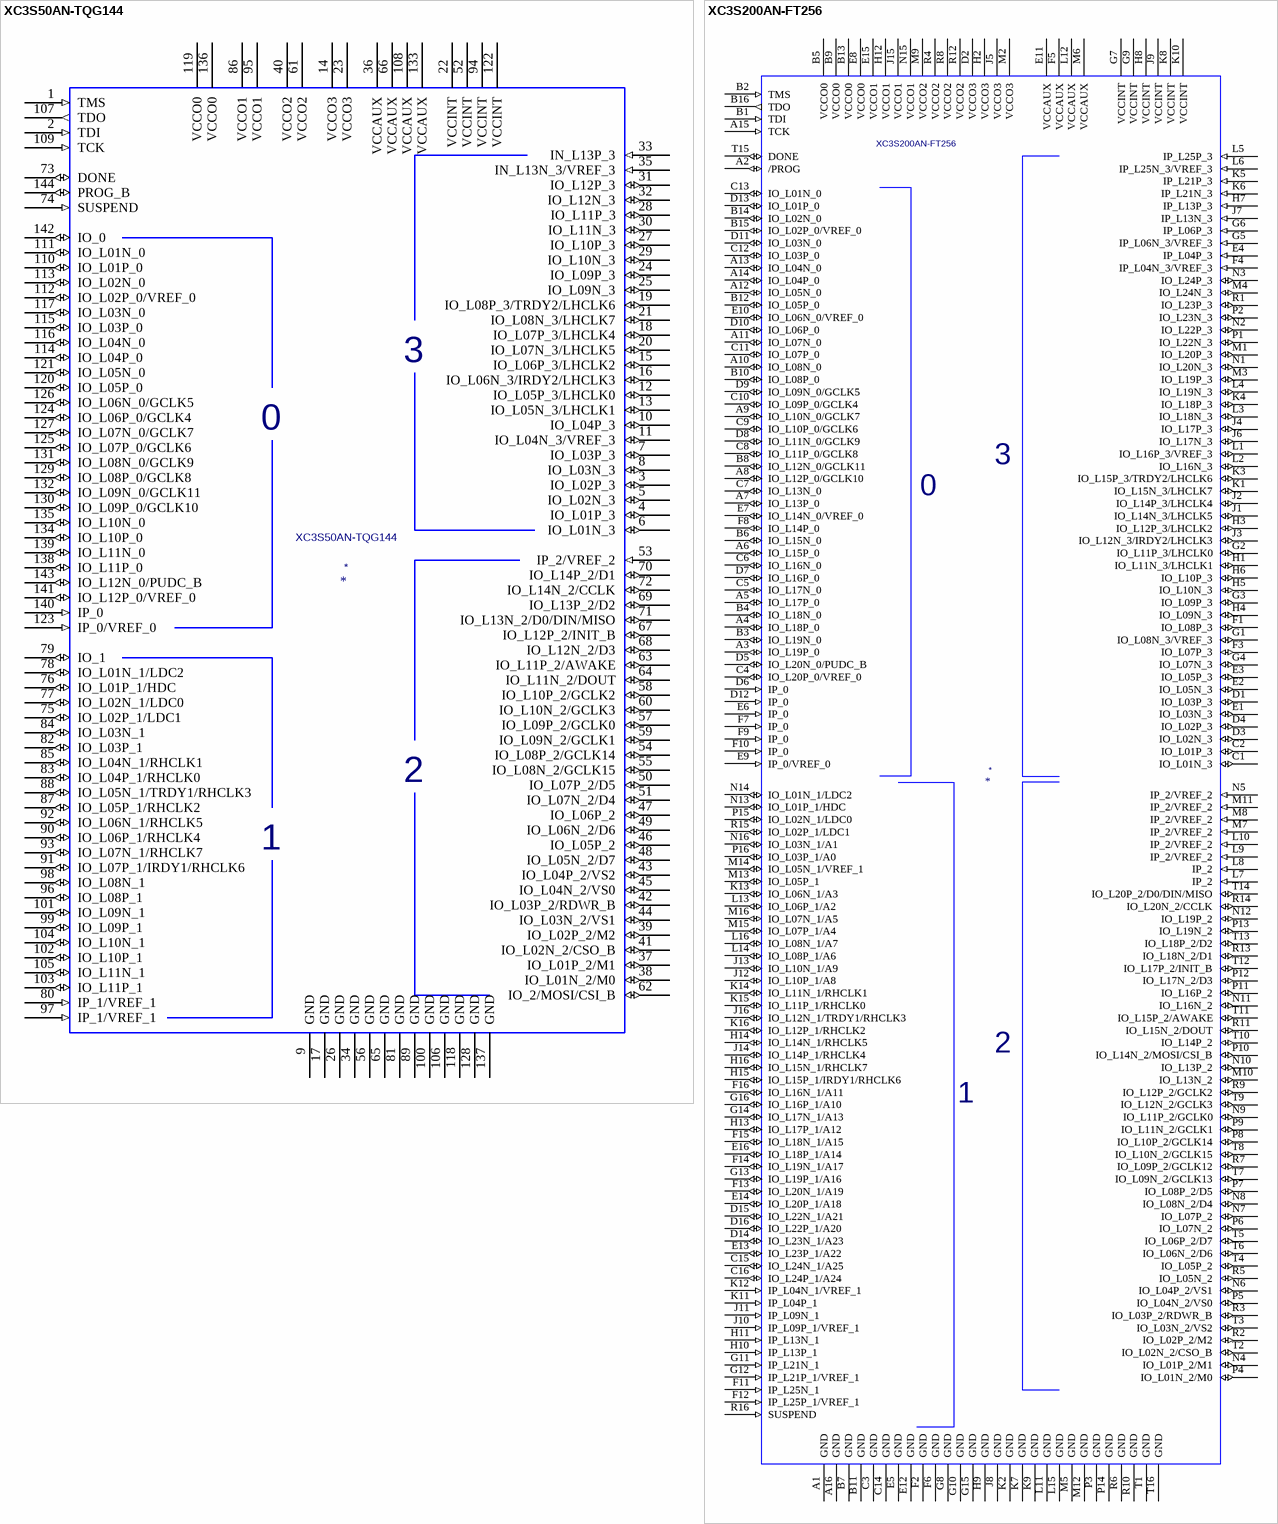
[diagram p4: symbols XC3S50AN-TQG144 to XC3S200AN-FT256]

## XC3S50AN-TQG144
designator *  value XC3S50AN-TQG144
ki_fp_filters: TQFP144
pins: 1 TMS (in), 2 TDI (in), 3 IO_L02P_3 (io), 4 IO_L01P_3 (io), 5 IO_L02N_3 (io), 6 IO_L01N_3 (io), 7 IO_L03P_3 (io), 8 IO_L03N_3 (io), 9 GND (power), 10 IO_L04P_3 (io), 11 IO_L04N_3/VREF_3 (io), 12 IO_L05P_3/LHCLK0 (io), 13 IO_L05N_3/LHCLK1 (io), 14 VCCO3, 15 IO_L06P_3/LHCLK2 (io), 16 IO_L06N_3/IRDY2/LHCLK3 (io), 17 GND (power), 18 IO_L07P_3/LHCLK4 (io), 19 IO_L08P_3/TRDY2/LHCLK6 (io), 20 IO_L07N_3/LHCLK5 (io), 21 IO_L08N_3/LHCLK7 (io), 22 VCCINT (power), 23 VCCO3 (power), 24 IO_L09P_3 (io), 25 IO_L09N_3 (io), 26 GND (power), 27 IO_L10P_3 (io), 28 IO_L11P_3 (io), 29 IO_L10N_3 (io), 30 IO_L11N_3 (io), 31 IO_L12P_3 (io), 32 IO_L12N_3 (io), 33 IN_L13P_3 (in), 34 GND (power), 35 IN_L13N_3/VREF_3 (in), 36 VCCAUX (power), 37 IO_L01P_2/M1 (io), 38 IO_L01N_2/M0 (io), 39 IO_L02P_2/M2 (io), 40 VCCO2 (power), 41 IO_L02N_2/CSO_B (io), 42 IO_L03P_2/RDWR_B (io), 43 IO_L04P_2/VS2 (io), 44 IO_L03N_2/VS1 (io), 45 IO_L04N_2/VS0 (io), 46 IO_L05P_2 (io), 47 IO_L06P_2 (io), 48 IO_L05N_2/D7 (io), 49 IO_L06N_2/D6 (io), 50 IO_L07P_2/D5 (io), 51 IO_L07N_2/D4 (io), 52 VCCINT (power), 53 IP_2/VREF_2 (in), 54 IO_L08P_2/GCLK14 (io), 55 IO_L08N_2/GCLK15 (io), 56 GND (power), 57 IO_L09P_2/GCLK0 (io), 58 IO_L10P_2/GCLK2 (io), 59 IO_L09N_2/GCLK1 (io), 60 IO_L10N_2/GCLK3 (io), 61 VCCO2 (power), 62 IO_2/MOSI/CSI_B (io), 63 IO_L11P_2/AWAKE (io), 64 IO_L11N_2/DOUT (io), 65 GND (power), 66 VCCAUX (power), 67 IO_L12P_2/INIT_B (io), 68 IO_L12N_2/D3 (io), 69 IO_L13P_2/D2 (io), 70 IO_L14P_2/D1 (io), 71 IO_L13N_2/D0/DIN/MISO (io), 72 IO_L14N_2/CCLK (io), 73 DONE (io), 74 SUSPEND (in), 75 IO_L02P_1/LDC1 (io), 76 IO_L01P_1/HDC (io), 77 IO_L02N_1/LDC0 (io), 78 IO_L01N_1/LDC2 (io), 79 IO_1 (io), 80 IP_1/VREF_1 (in), 81 GND (power), 82 IO_L03P_1 (io), 83 IO_L04P_1/RHCLK0 (io), 84 IO_L03N_1 (io), 85 IO_L04N_1/RHCLK1 (io), 86 VCCO1 (power), 87 IO_L05P_1/RHCLK2 (io), 88 IO_L05N_1/TRDY1/RHCLK3 (io), 89 GND (power), 90 IO_L06P_1/RHCLK4 (io), 91 IO_L07P_1/IRDY1/RHCLK6 (io), 92 IO_L06N_1/RHCLK5 (io), 93 IO_L07N_1/RHCLK7 (io), 94 VCCINT (power), 95 VCCO1 (power), 96 IO_L08P_1 (io), 97 IP_1/VREF_1 (in), 98 IO_L08N_1 (io), 99 IO_L09P_1 (io), 100 GND (power), 101 IO_L09N_1 (io), 102 IO_L10P_1 (io), 103 IO_L11P_1 (io), 104 IO_L10N_1 (io), 105 IO_L11N_1 (io), 106 GND (power), 107 TDO (out), 108 VCCAUX (power), 109 TCK (in), 110 IO_L01P_0 (io), 111 IO_L01N_0 (io), 112 IO_L02P_0/VREF_0 (io), 113 IO_L02N_0 (io), 114 IO_L04P_0 (io), 115 IO_L03P_0 (io), 116 IO_L04N_0 (io), 117 IO_L03N_0 (io), 118 GND (power), 119 VCCO0 (power), 120 IO_L05P_0 (io), 121 IO_L05N_0 (io), 122 VCCINT (power), 123 IP_0/VREF_0 (in), 124 IO_L06P_0/GCLK4 (io), 125 IO_L07P_0/GCLK6 (io), 126 IO_L06N_0/GCLK5 (io), 127 IO_L07N_0/GCLK7 (io), 128 GND (power), 129 IO_L08P_0/GCLK8 (io), 130 IO_L09P_0/GCLK10 (io), 131 IO_L08N_0/GCLK9 (io), 132 IO_L09N_0/GCLK11 (io), 133 VCCAUX (power), 134 IO_L10P_0 (io), 135 IO_L10N_0 (io), 136 VCCO0 (power), 137 GND (power), 138 IO_L11P_0 (io), 139 IO_L11N_0 (io), 140 IP_0 (in), 141 IO_L12P_0/VREF_0 (io), 142 IO_0 (io), 143 IO_L12N_0/PUDC_B (io), 144 PROG_B (io)
text: 0

## XC3S200AN-FT256
designator *  value XC3S200AN-FT256
ki_description: BGA256/1mm; ki_fp_filters: BGA256
pins: A1 GND (power), A2 /PROG (io), A3 IO_L19P_0 (io), A4 IO_L18P_0 (io), A5 IO_L17P_0 (io), A6 IO_L15P_0 (io), A7 IO_L13P_0 (io), A8 IO_L12P_0/GCLK10 (io), A9 IO_L10N_0/GCLK7 (io), A10 IO_L08N_0 (io), A11 IO_L07N_0 (io), A12 IO_L05N_0 (io), A13 IO_L04N_0 (io), A14 IO_L04P_0 (io), A15 TCK (in), A16 GND (power), B1 TDI (in), B2 TMS (in), B3 IO_L19N_0 (io), B4 IO_L18N_0 (io), B5 VCCO0 (power), B6 IO_L15N_0 (io), B7 GND (power), B8 IO_L12N_0/GCLK11 (io), B9 VCCO0 (power), B10 IO_L08P_0 (io), B11 GND (power), B12 IO_L05P_0 (io), B13 VCCO0 (power), B14 IO_L02N_0 (io), B15 IO_L02P_0/VREF_0 (io), B16 TDO (out), C1 IO_L01N_3 (io), C2 IO_L01P_3 (io), C3 GND (power), C4 IO_L20P_0/VREF_0 (io), C5 IO_L17N_0 (io), C6 IO_L16N_0 (io), C7 IO_L13N_0 (io), C8 IO_L11P_0/GCLK8 (io), C9 IO_L10P_0/GCLK6 (io), C10 IO_L09P_0/GCLK4 (io), C11 IO_L07P_0 (io), C12 IO_L03P_0 (io), C13 IO_L01N_0 (io), C14 GND (power), C15 IO_L24N_1/A25 (io), C16 IO_L24P_1/A24 (io), D1 IO_L03P_3 (io), D2 VCCO3, D3 IO_L02N_3 (io), D4 IO_L02P_3 (io), D5 IO_L20N_0/PUDC_B (io), D6 IP_0 (in), D7 IO_L16P_0 (io), D8 IO_L11N_0/GCLK9 (io), D9 IO_L09N_0/GCLK5 (io), D10 IO_L06P_0 (io), D11 IO_L03N_0 (io), D12 IP_0 (in), D13 IO_L01P_0 (io), D14 IO_L23N_1/A23 (io), D15 IO_L22N_1/A21 (io), D16 IO_L22P_1/A20 (io), E1 IO_L03N_3 (io), E2 IO_L05N_3 (io), E3 IO_L05P_3 (io), E4 IP_L04P_3 (in), E5 GND (power), E6 IP_0 (in), E7 IO_L14N_0/VREF_0 (io), E8 VCCO0 (power), E9 IP_0/VREF_0 (in), E10 IO_L06N_0/VREF_0 (io), E11 VCCAUX (power), E12 GND (power), E13 IO_L23P_1/A22 (io), E14 IO_L20P_1/A18 (io), E15 VCCO1 (power), E16 IO_L18P_1/A14 (io), F1 IO_L08P_3 (io), F2 GND (power), F3 IO_L07P_3 (io), F4 IP_L04N_3/VREF_3 (in), F5 VCCAUX (power), F6 GND (power), F7 IP_0 (in), F8 IO_L14P_0 (io), F9 IP_0 (in), F10 IP_0 (in), F11 IP_L25N_1 (in), F12 IP_L25P_1/VREF_1 (in), F13 IO_L20N_1/A19 (io), F14 IO_L19N_1/A17 (io), F15 IO_L18N_1/A15 (io), F16 IO_L16N_1/A11 (io), G1 IO_L08N_3/VREF_3 (io), G2 IO_L11P_3/LHCLK0 (io), G3 IO_L09P_3 (io), G4 IO_L07N_3 (io), G5 IP_L06N_3/VREF_3 (in), G6 IP_L06P_3 (in), G7 VCCINT (power), G8 GND (power), G9 VCCINT (power), G10 GND (power), G11 IP_L21N_1 (in), G12 IP_L21P_1/VREF_1 (in), G13 IO_L19P_1/A16 (io), G14 IO_L17N_1/A13 (io), G15 GND (power), G16 IO_L16P_1/A10 (io), H1 IO_L11N_3/LHCLK1 (io), H2 VCCO3 (power), H3 IO_L12P_3/LHCLK2 (io), H4 IO_L09N_3 (io), H5 IO_L10N_3 (io), H6 IO_L10P_3 (io), H7 IP_L13P_3 (in), H8 VCCINT (power), H9 GND (power), H10 IP_L13P_1 (in), H11 IP_L13N_1 (in), H12 VCCO1 (power), H13 IO_L17P_1/A12 (io), H14 IO_L14N_1/RHCLK5 (io), H15 IO_L15P_1/IRDY1/RHCLK6 (io), H16 IO_L15N_1/RHCLK7 (io), J1 IO_L14N_3/LHCLK5 (io), J2 IO_L14P_3/LHCLK4 (io), J3 IO_L12N_3/IRDY2/LHCLK3 (io), J4 IO_L17P_3 (io), J5 VCCO3 (power), J6 IO_L17N_3 (io), J7 IP_L13N_3 (in), J8 GND (power), J9 VCCINT (power), J10 IP_L09P_1/VREF_1 (in), J11 IP_L09N_1 (in), J12 IO_L10P_1/A8 (io), J13 IO_L10N_1/A9 (io), J14 IO_L14P_1/RHCLK4 (io), J15 VCCO1 (power), J16 IO_L12N_1/TRDY1/RHCLK3 (io), K1 IO_L15N_3/LHCLK7 (io), K2 GND (power), K3 IO_L15P_3/TRDY2/LHCLK6 (io), K4 IO_L18P_3 (io), K5 IP_L21P_3 (in), K6 IP_L21N_3 (in), K7 GND (power), K8 VCCINT (power), K9 GND (power), K10 VCCINT (power), K11 IP_L04P_1 (in), K12 IP_L04N_1/VREF_1 (in), K13 IO_L06N_1/A3 (io), K14 IO_L11N_1/RHCLK1 (io), K15 IO_L11P_1/RHCLK0 (io), K16 IO_L12P_1/RHCLK2 (io), L1 IO_L16P_3/VREF_3 (io), L2 IO_L16N_3 (io), L3 IO_L18N_3 (io), L4 IO_L19N_3 (io), L5 IP_L25P_3 (in), L6 IP_L25N_3/VREF_3 (in), L7 IP_2 (in), L8 IP_2 (in), L9 IP_2/VREF_2 (in), L10 IP_2/VREF_2 (in), L11 GND (power), L12 VCCAUX (power), L13 IO_L06P_1/A2 (io), L14 IO_L08P_1/A6 (io), L15 GND (power), L16 IO_L08N_1/A7 (io), M1 IO_L20P_3 (io), M2 VCCO3 (power), M3 IO_L19P_3 (io), M4 IO_L24N_3 (io), M5 GND (power), M6 VCCAUX (power), M7 IP_2/VREF_2 (in), M8 IP_2/VREF_2 (in), M9 VCCO2 (power), M10 IO_L13N_2 (io), M11 IP_2/VREF_2 (in), M12 GND (power), M13 IO_L05P_1 (io), M14 IO_L05N_1/VREF_1 (io), M15 IO_L07P_1/A4 (io), M16 IO_L07N_1/A5 (io), N1 IO_L20N_3 (io), N2 IO_L22P_3 (io), N3 IO_L24P_3 (io), N4 IO_L01P_2/M1 (io), N5 IP_2/VREF_2 (in), N6 IO_L04P_2/VS1 (io), N7 IO_L07P_2 (io), N8 IO_L08N_2/D4 (io), N9 IO_L11P_2/GCLK0 (io), N10 IO_L13P_2 (io), N11 IO_L16N_2 (io), N12 IO_L19P_2 (io), N13 IO_L01P_1/HDC (io), N14 IO_L01N_1/LDC2 (io), N15 VCCO1 (power), N16 IO_L03N_1/A1 (io), P1 IO_L22N_3 (io), P2 IO_L23N_3 (io), P3 GND (power), P4 IO_L01N_2/M0 (io), P5 IO_L04N_2/VS0 (io), P6 IO_L07N_2 (io), P7 IO_L08P_2/D5 (io), P8 IO_L10P_2/GCLK14 (io), P9 IO_L11N_2/GCLK1 (io), P10 IO_L14N_2/MOSI/CSI_B (io), P11 IO_L16P_2 (io), P12 IO_L17N_2/D3 (io), P13 IO_L19N_2 (io), P14 GND (power), P15 IO_L02N_1/LDC0 (io), P16 IO_L03P_1/A0 (io), R1 IO_L23P_3 (io), R2 IO_L02P_2/M2 (io), R3 IO_L03P_2/RDWR_B (io), R4 VCCO2 (power), R5 IO_L05N_2 (io), R6 GND (power), R7 IO_L09P_2/GCLK12 (io), R8 VCCO2 (power), R9 IO_L12P_2/GCLK2 (io), R10 GND (power), R11 IO_L15N_2/DOUT (io), R12 VCCO2 (power), R13 IO_L18N_2/D1 (io), R14 IO_L20N_2/CCLK (io), R15 IO_L02P_1/LDC1 (io), R16 SUSPEND (in), T1 GND (power), T2 IO_L02N_2/CSO_B (io), T3 IO_L03N_2/VS2 (io), T4 IO_L05P_2 (io), T5 IO_L06P_2/D7 (io), T6 IO_L06N_2/D6 (io), T7 IO_L09N_2/GCLK13 (io), T8 IO_L10N_2/GCLK15 (io), T9 IO_L12N_2/GCLK3 (io), T10 IO_L14P_2 (io), T11 IO_L15P_2/AWAKE (io), T12 IO_L17P_2/INIT_B (io), T13 IO_L18P_2/D2 (io), T14 IO_L20P_2/D0/DIN/MISO (io), T15 DONE (io), T16 GND (power)
text: 3; 0; 2; 1

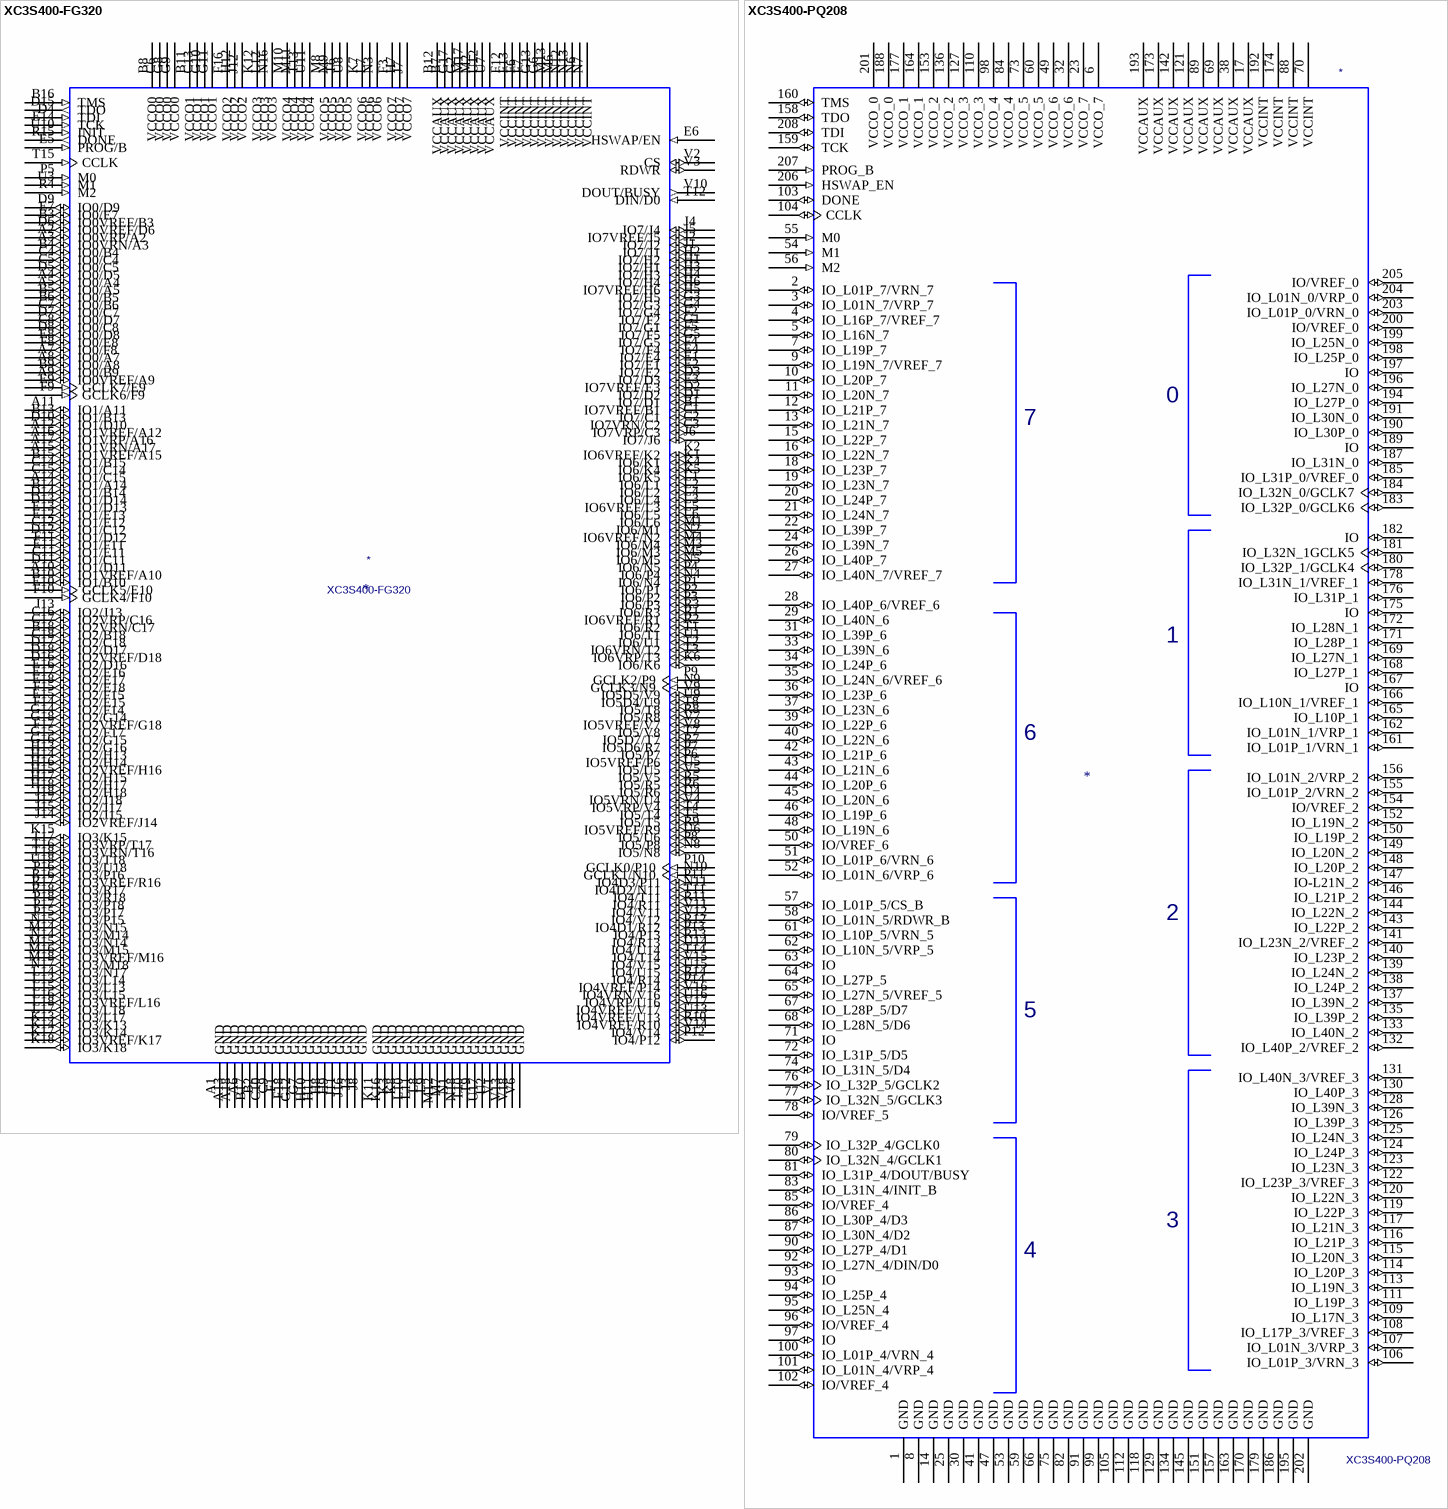
[diagram p5: symbols XC3S400-FG320 to XC3S400-PQ208]

## XC3S400-FG320
designator *  value XC3S400-FG320
pins: A1 GND (power), A2 IO0VRP/A2 (io), A3 IO0VRN/A3 (io), A4 IO0/A4 (io), A5 IO0/A5 (io), A6 GND (power), A7 IO0/A7 (io), A8 IO0/A8 (io), A9 IO0VREF/A9 (io), A10 IO1VREF/A10 (io), A11 IO1/A11 (io), A12 IO1VREF/A12 (io), A13 GND (power), A14 IO1/A14 (io), A15 IO1VREF/A15 (io), A16 IO1VRP/A16 (io), A17 IO1VRN/A17 (io), A18 GND (power), B1 IO7VREF/B1 (io), B2 GND (power), B3 IO0VREF/B3 (io), B4 IO0/B4 (io), B5 IO0/B5 (io), B6 IO0/B6 (io), B7 VCCAUX (power), B8 VCCO0 (power), B9 IO0/B9 (io), B10 IO1/B10 (io), B11 VCCO1 (power), B12 VCCAUX (power), B13 IO1/B13 (io), B14 IO1/B14 (io), B15 IO1/B15 (io), B16 TMS (in), B17 GND (power), B18 IO2/B18 (io), C1 IO7/C1 (io), C2 IO7VRN/C2 (io), C3 IO7VRP/C3 (io), C4 IO0/C4 (io), C5 IO0/C5 (io), C6 VCCO0 (power), C7 IO0/C7 (io), C8 IO0/C8 (io), C9 GND (power), C10 GND (power), C11 IO1/C11 (io), C12 IO1/C12 (io), C13 VCCO1 (power), C14 IO1/C14 (io), C15 IO1/C15 (io), C16 IO2VRP/C16 (io), C17 IO2VRN/C17 (io), C18 IO2/C18 (io), D1 IO7/D1 (io), D2 IO7/D2 (io), D3 IO7/D3 (io), D4 TDI (in), D5 IO0/D5 (io), D6 IO0VREF/D6 (io), D7 IO0/D7 (io), D8 IO0/D8 (io), D9 IO0/D9 (io), D10 IO1/D10 (io), D11 IO1/D11 (io), D12 IO1/D12 (io), D13 IO1/D13 (io), D14 IO1/D14 (io), D15 TDO (out), D16 IO2/D16 (io), D17 IO2/D17 (io), D18 IO2VREF/D18 (io), E1 IO7/E1 (io), E2 IO7/E2 (io), E3 IO7VREF/E3 (io), E4 IO7/E4 (io), E5 PROG/B (in), E6 HSWAP/EN (in), E7 IO0/E7 (io), E8 IO0/E8 (io), E9 GCLK7/E9 (in), E10 GCLK5/E10 (in), E11 IO1/E11 (io), E12 IO1/E12 (io), E13 IO1/E13 (io), E14 TCK (in), E15 IO2/E15 (io), E16 IO2/E16 (io), E17 IO2/E17 (io), E18 IO2/E18 (io), F1 GND (power), F2 IO7/F2 (io), F3 VCCO7 (power), F4 IO7/F4 (io), F5 IO7/F5 (io), F6 VCCINT (power), F7 VCCINT (power), F8 IO0/F8 (io), F9 GCLK6/F9 (in), F10 GCLK4/F10 (in), F11 IO1/F11 (io), F12 VCCINT (power), F13 VCCINT (power), F14 IO2/F14 (io), F15 IO2/F15 (io), F16 VCCO2 (power), F17 IO2/F17 (io), F18 GND (power), G1 IO7/G1 (io), G2 VCCAUX (power), G3 IO7/G3 (io), G4 IO7/G4 (io), G5 IO7/G5 (io), G6 VCCINT (power), G7 GND (power), G8 VCCO0 (power), G9 VCCO0 (power), G10 VCCO1 (power), G11 VCCO1 (power), G12 GND (power), G13 VCCINT (power), G14 IO2/G14 (io), G15 IO2/G15 (io), G16 IO2/G16 (io), G17 VCCAUX (power), G18 IO2VREF/G18 (io), H1 IO7/H1 (io), H2 IO7/H2 (io), H3 IO7/H3 (io), H4 IO7/H4 (io), H5 IO7/H5 (io), H6 IO7VREF/H6 (io), H7 VCCO7 (power), H8 GND (power), H9 GND (power), H10 GND (power), H11 GND (power), H12 VCCO2 (power), H13 IO2/H13 (io), H14 IO2/H14 (io), H15 IO2/H15 (io), H16 IO2VREF/H16 (io), H17 IO2/H17 (io), H18 IO2/H18 (io), J1 IO7/J1 (io), J2 IO7/J2 (io), J3 GND (power), J4 IO7/J4 (io), J5 IO7VREF/J5 (io), J6 IO7/J6 (io), J7 VCCO7 (power), J8 GND (power), J11 GND (power), J12 VCCO2 (power), J13 IO2/J13 (io), J14 IO2VREF/J14 (io), J15 IO2/J15 (io), J16 GND (power), J17 IO2/J17 (io), J18 IO2/J18 (io), K1 IO6/K1 (io), K2 IO6VREF/K2 (io), K3 GND (power), K4 IO6/K4 (io), K5 IO6/K5 (io), K6 IO6/K6 (io), K7 VCCO6 (power), K8 GND (power), K11 GND (power), K12 VCCO3 (power), K13 IO3/K13 (io), K14 IO3/K14 (io), K15 IO3/K15 (io), K16 GND (power), K17 IO3VREF/K17 (io), K18 IO3/K18 (io), L1 IO6/L1 (io), L2 IO6/L2 (io), L3 IO6VREF/L3 (io), L4 IO6/L4 (io), L5 IO6/L5 (io), L6 IO6/L6 (io), L7 VCCO6 (power), L8 GND (power), L9 GND (power), L10 GND (power), L11 GND (power), L12 VCCO3 (power), L13 IO3/L13 (io), L14 IO3/L14 (io), L15 IO3/L15 (io), L16 IO3VREF/L16 (io), L17 IO3/L17 (io), L18 IO3/L18 (io), M1 IO6/M1 (io), M2 VCCAUX (power), M3 IO6/M3 (io), M4 IO6/M4 (io), M5 IO6/M5 (io), M6 VCCINT (power), M7 GND (power), M8 VCCO5 (power), M9 VCCO5 (power), M10 VCCO4 (power), M11 VCCO4 (power), M12 GND (power), M13 VCCINT (power), M14 IO3/M14 (io), M15 IO3/M15 (io), M16 IO3VREF/M16 (io), M17 VCCAUX (power), M18 IO3/M18 (io), N1 GND (power), N2 IO6VREF/N2 (io), N3 VCCO6 (power), N4 IO6/N4 (io), N5 IO6/N5 (io), N6 VCCINT (power), N7 VCCINT (power), N8 IO5/N8 (io), N9 GCLK3/N9 (in), N10 GCLK1/N10 (in), N11 IO4D2/N11 (io), N12 VCCINT (power), N13 VCCINT (power), N14 IO3/N14 (io), N15 IO3/N15 (io), N16 VCCO3 (power), N17 IO3/N17 (io), N18 GND (power), P1 IO6/P1 (io), P2 IO6/P2 (io), P3 IO6/P3 (io), P4 IO6/P4 (io), P5 M0 (in), P6 IO5VREF/P6 (io), P7 IO5/P7 (io), P8 IO5/P8 (io), P9 GCLK2/P9 (in), P10 GCLK0/P10 (in), P11 IO4D3/P11 (io), P12 IO4/P12 (io), P13 IO4/P13 (io), P14 IO4VREF/P14 (io), P15 IO3/P15 (io), P16 IO3/P16 (io), P17 IO3/P17 (io), P18 IO3/P18 (io), R1 IO6VREF/R1 (io), R2 IO6/R2 (io), R3 IO6/R3 (io), R4 M2 (in), R5 IO5/R5 (io), R6 IO5/R6 (io), R7 IO5D6/R7 (io), R8 IO5/R8 (io), R9 IO5VREF/R9 (io), R10 IO4VREF/R10 (io), R11 IO4/R11 (io), R12 IO4D1/R12 (io), R13 IO4/R13 (io), R14 IO4/R14 (io), R15 DONE (out), R16 IO3VREF/R16 (io), R17 IO3/R17 (io), R18 IO3/R18 (io), T1 IO6/T1 (io), T2 IO6VRN/T2 (io), T3 IO6VRP/T3 (io), T4 IO5/T4 (io), T5 IO5/T5 (io), T6 VCCO5 (power), T7 IO5D7/T7 (io), T8 IO5/T8 (io), T9 GND (power), T10 GND (power), T11 IO4/T11 (io), T12 DIN/D0 (in), T13 VCCO4 (power), T14 IO4/T14 (io), T15 CCLK (in), T16 IO3VRN/T16 (io), T17 IO3VRP/T17 (io), T18 IO3/T18 (io), U1 IO6/U1 (io), U2 GND (power), U3 M1 (in), U4 IO5VRN/U4 (io), U5 IO5/U5 (io), U6 IO5/U6 (io), U7 VCCAUX (power), U8 VCCO5 (power), U9 IO5D4/U9 (io), U10 INIT (in), U11 VCCO4 (power), U12 VCCAUX (power), U13 IO4VREF/U13 (io), U14 IO4/U14 (io), U15 IO4/U15 (io), U16 IO4VRP/U16 (io), U17 GND (power), U18 IO3/U18 (io), V1 GND (power), V2 CS (io), V3 RDWR (io), V4 IO5VRP/V4 (io), V5 IO5/V5 (io), V6 GND (power), V7 IO5VREF/V7 (io), V8 IO5/V8 (io), V9 IO5D5/V9 (io), V10 DOUT/BUSY (out), V11 IO4/V11 (io), V12 IO4/V12 (io), V13 GND (power), V14 IO4/V14 (io), V15 IO4/V15 (io), V16 IO4VRN/V16 (io), V17 IO4VREF/V17 (io), V18 GND (power)

## XC3S400-PQ208
designator *  value XC3S400-PQ208
pins: 1 GND (power), 2 IO_L01P_7/VRN_7 (io), 3 IO_L01N_7/VRP_7 (io), 4 IO_L16P_7/VREF_7 (io), 5 IO_L16N_7 (io), 6 VCCO_7 (power), 7 IO_L19P_7 (io), 8 GND (power), 9 IO_L19N_7/VREF_7 (io), 10 IO_L20P_7 (io), 11 IO_L20N_7 (io), 12 IO_L21P_7 (io), 13 IO_L21N_7 (io), 14 GND (power), 15 IO_L22P_7 (io), 16 IO_L22N_7 (io), 17 VCCAUX (power), 18 IO_L23P_7 (io), 19 IO_L23N_7 (io), 20 IO_L24P_7 (io), 21 IO_L24N_7 (io), 22 IO_L39P_7 (io), 23 VCCO_7 (power), 24 IO_L39N_7 (io), 25 GND (power), 26 IO_L40P_7 (io), 27 IO_L40N_7/VREF_7 (io), 28 IO_L40P_6/VREF_6 (io), 29 IO_L40N_6 (io), 30 GND (power), 31 IO_L39P_6 (io), 32 VCCO_6 (power), 33 IO_L39N_6 (io), 34 IO_L24P_6 (io), 35 IO_L24N_6/VREF_6 (io), 36 IO_L23P_6 (io), 37 IO_L23N_6 (io), 38 VCCAUX (power), 39 IO_L22P_6 (io), 40 IO_L22N_6 (io), 41 GND (power), 42 IO_L21P_6 (io), 43 IO_L21N_6 (io), 44 IO_L20P_6 (io), 45 IO_L20N_6 (io), 46 IO_L19P_6 (io), 47 GND (power), 48 IO_L19N_6 (io), 49 VCCO_6, 50 IO/VREF_6 (io), 51 IO_L01P_6/VRN_6 (io), 52 IO_L01N_6/VRP_6 (io), 53 GND (power), 54 M1 (in), 55 M0 (in), 56 M2 (in), 57 IO_L01P_5/CS_B (io), 58 IO_L01N_5/RDWR_B (io), 59 GND (power), 60 VCCO_5 (power), 61 IO_L10P_5/VRN_5 (io), 62 IO_L10N_5/VRP_5 (io), 63 IO (io), 64 IO_L27P_5 (io), 65 IO_L27N_5/VREF_5 (io), 66 GND (power), 67 IO_L28P_5/D7 (io), 68 IO_L28N_5/D6 (io), 69 VCCAUX (power), 70 VCCINT (power), 71 IO (io), 72 IO_L31P_5/D5 (io), 73 VCCO_5 (power), 74 IO_L31N_5/D4 (io), 75 GND (power), 76 IO_L32P_5/GCLK2 (io), 77 IO_L32N_5/GCLK3 (io), 78 IO/VREF_5 (io), 79 IO_L32P_4/GCLK0 (io), 80 IO_L32N_4/GCLK1 (io), 81 IO_L31P_4/DOUT/BUSY (io), 82 GND (power), 83 IO_L31N_4/INIT_B (io), 84 VCCO_4 (power), 85 IO/VREF_4 (io), 86 IO_L30P_4/D3 (io), 87 IO_L30N_4/D2 (io), 88 VCCINT (power), 89 VCCAUX (power), 90 IO_L27P_4/D1 (io), 91 GND (power), 92 IO_L27N_4/DIN/D0 (io), 93 IO (io), 94 IO_L25P_4 (io), 95 IO_L25N_4 (io), 96 IO/VREF_4 (io), 97 IO (io), 98 VCCO_4 (power), 99 GND (power), 100 IO_L01P_4/VRN_4 (io), 101 IO_L01N_4/VRP_4 (io), 102 IO/VREF_4 (io), 103 DONE (io), 104 CCLK (io), 105 GND (power), 106 IO_L01P_3/VRN_3 (io), 107 IO_L01N_3/VRP_3 (io), 108 IO_L17P_3/VREF_3 (io), 109 IO_L17N_3 (io), 110 VCCO_3 (power), 111 IO_L19P_3 (io), 112 GND (power), 113 IO_L19N_3 (io), 114 IO_L20P_3 (io), 115 IO_L20N_3 (io), 116 IO_L21P_3 (io), 117 IO_L21N_3 (io), 118 GND (power), 119 IO_L22P_3 (io), 120 IO_L22N_3 (io), 121 VCCAUX (power), 122 IO_L23P_3/VREF_3 (io), 123 IO_L23N_3 (io), 124 IO_L24P_3 (io), 125 IO_L24N_3 (io), 126 IO_L39P_3 (io), 127 VCCO_3 (power), 128 IO_L39N_3 (io), 129 GND (power), 130 IO_L40P_3 (io), 131 IO_L40N_3/VREF_3 (io), 132 IO_L40P_2/VREF_2 (io), 133 IO_L40N_2 (io), 134 GND (power), 135 IO_L39P_2 (io), 136 VCCO_2 (power), 137 IO_L39N_2 (io), 138 IO_L24P_2 (io), 139 IO_L24N_2 (io), 140 IO_L23P_2 (io), 141 IO_L23N_2/VREF_2 (io), 142 VCCAUX (power), 143 IO_L22P_2 (io), 144 IO_L22N_2 (io), 145 GND (power), 146 IO_L21P_2 (io), 147 IO-L21N_2 (io), 148 IO_L20P_2 (io), 149 IO_L20N_2 (io), 150 IO_L19P_2 (io), 151 GND (power), 152 IO_L19N_2 (io), 153 VCCO_2 (power), 154 IO/VREF_2 (io), 155 IO_L01P_2/VRN_2 (io), 156 IO_L01N_2/VRP_2 (io), 157 GND (power), 158 TDO (io), 159 TCK (io), 160 TMS (io), 161 IO_L01P_1/VRN_1 (io), 162 IO_L01N_1/VRP_1 (io), 163 GND (power), 164 VCCO_1 (power), 165 IO_L10P_1 (io), 166 IO_L10N_1/VREF_1 (io), 167 IO (io), 168 IO_L27P_1 (io), 169 IO_L27N_1 (io), 170 GND (power), 171 IO_L28P_1 (io), 172 IO_L28N_1 (io), 173 VCCAUX (power), 174 VCCINT (power), 175 IO (io), 176 IO_L31P_1 (io), 177 VCCO_1 (power), 178 IO_L31N_1/VREF_1 (io), 179 GND (power), 180 IO_L32P_1/GCLK4 (io), 181 IO_L32N_1GCLK5 (io), 182 IO (io), 183 IO_L32P_0/GCLK6 (io), 184 IO_L32N_0/GCLK7 (io), 185 IO_L31P_0/VREF_0 (io), 186 GND (power), 187 IO_L31N_0 (io), 188 VCCO_0 (power), 189 IO (io), 190 IO_L30P_0 (io), 191 IO_L30N_0 (io), 192 VCCINT (power), 193 VCCAUX (power), 194 IO_L27P_0 (io), 195 GND (power), 196 IO_L27N_0 (io), 197 IO (io), 198 IO_L25P_0 (io), 199 IO_L25N_0 (io), 200 IO/VREF_0 (io), 201 VCCO_0 (power), 202 GND (power), 203 IO_L01P_0/VRN_0 (io), 204 IO_L01N_0/VRP_0 (io), 205 IO/VREF_0 (io), 206 HSWAP_EN (in), 207 PROG_B (in), 208 TDI (io)
text: 0

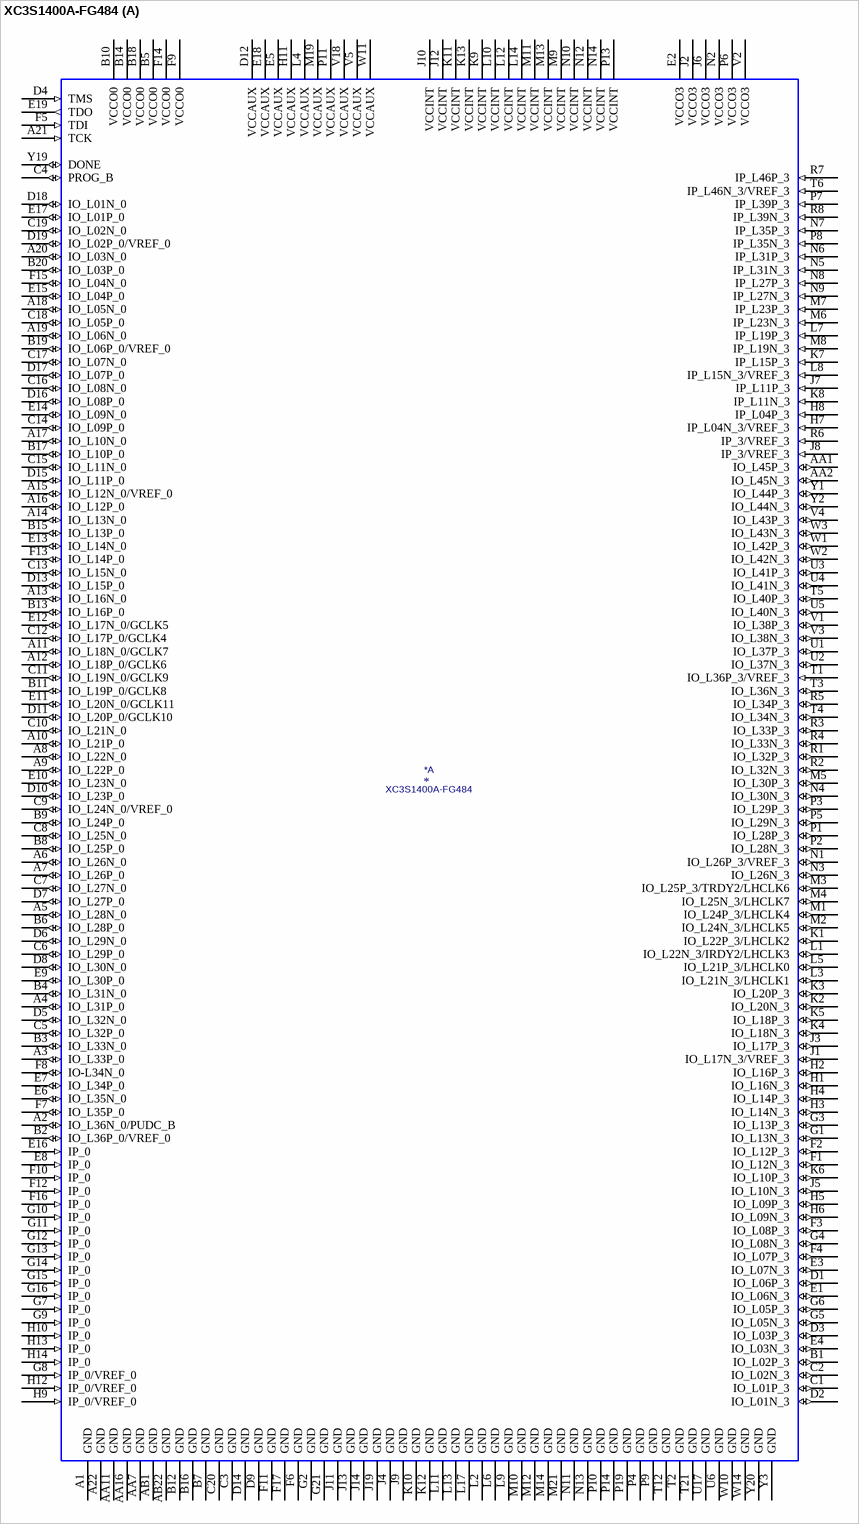
[diagram p6: symbol XC3S1400A-FG484]

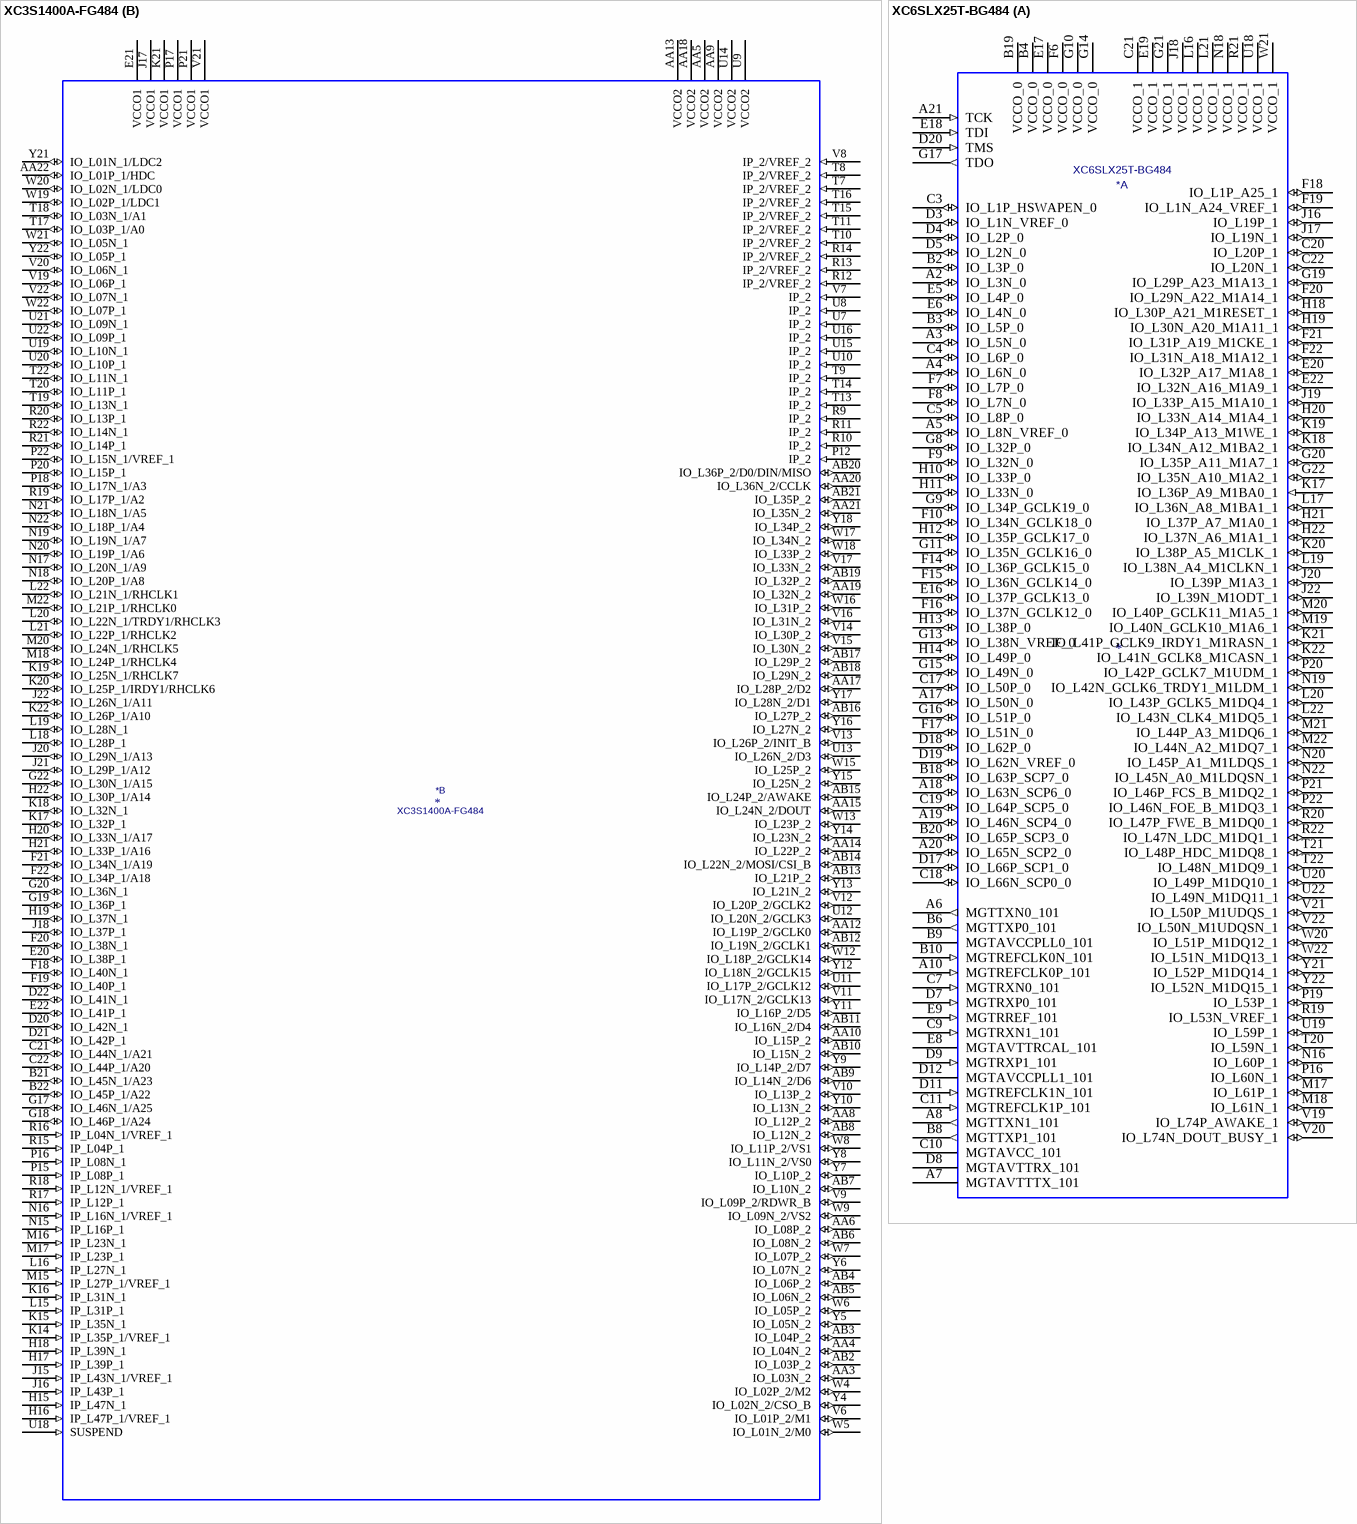
[diagram p7: symbols XC3S1400A-FG484 to XC6SLX25T-BG484]